# Altium schematic symbol library SchLibrary.SchLib: 178 symbols
Pins are listed as number, name and electrical type; pins without a type are passive.

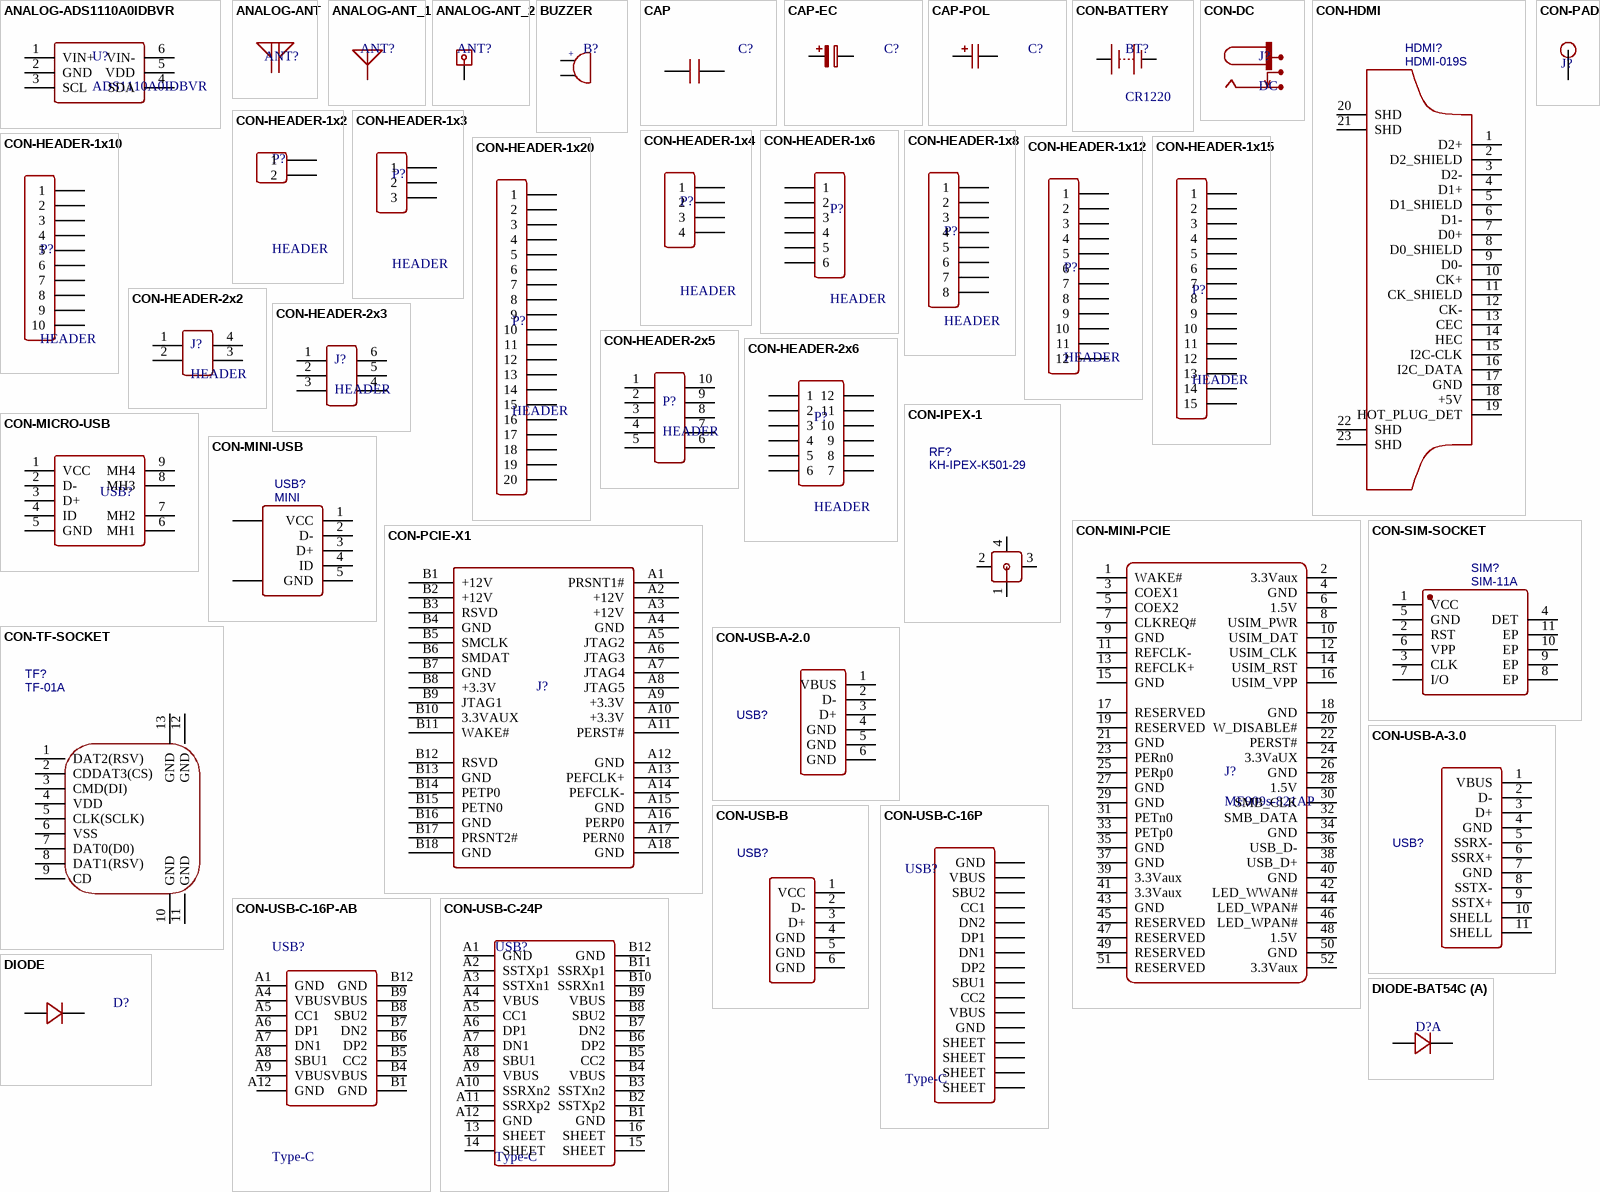
[diagram p0: symbols ANALOG-ADS1110A0IDBVR to DIODE-BAT54C]

## ANALOG-ADS1110A0IDBVR
designator U?, comment ADS1110A0IDBVR
footprint SOT-23-6
pins: 1 VIN+, 2 GND, 3 SCL, 4 SDA, 5 VDD, 6 VIN-

## ANALOG-ANT
designator ANT?
天线
pins: 1 ANT, 2 GND

## ANALOG-ANT_1
designator ANT?
天线
pins: 1

## ANALOG-ANT_2
designator ANT?
天线
pins: 1 S, 2 GND hidden to GND, 3 GND hidden to GND, 4 GND hidden to GND

## BUZZER
designator B?
蜂鸣器
pins: 1, 2
text: +

## CAP
designator C?
无极性电容; ComponentLink1Description: 供应商链接; ComponentLink1URL: http://www.szlcsc.com/product/details_1911.html
pins: 1, 2

## CAP-EC
designator C?
有极性电容; ComponentLink1Description: 供应商链接; ComponentLink1URL: http://www.szlcsc.com/product/details_7643.html
pins: 1, 2

## CAP-POL
designator C?
有极性电容; ComponentLink1Description: 供应商链接; ComponentLink1URL: http://www.szlcsc.com/product/details_7643.html
pins: 1, 2

## CON-BATTERY
designator BT?, comment CR1220
电池插座
pins: 1 +, 2 -

## CON-DC
designator J?, comment DC
DC5.5插座
pins: 1, 2, 3

## CON-HDMI
designator HDMI?, comment HDMI-019S
footprint CON-HDMI-019S (Connectors)
pins: 1 D2+, 2 D2_SHIELD, 3 D2-, 4 D1+, 5 D1_SHIELD, 6 D1-, 7 D0+, 8 D0_SHIELD, 9 D0-, 10 CK+, 11 CK_SHIELD, 12 CK-, 13 CEC, 14 HEC, 15 I2C-CLK, 16 I2C_DATA, 17 GND, 18 +5V, 19 HOT_PLUG_DET, 20 SHD, 21 SHD, 22 SHD, 23 SHD

## CON-HEADER-1x2
designator P?, comment HEADER
排线端子
signal-integrity model Connector
pins: 1, 2

## CON-HEADER-1x3
designator P?, comment HEADER
排线端子
signal-integrity model Connector
pins: 1, 2, 3

## CON-HEADER-1x4
designator P?, comment HEADER
排线端子
signal-integrity model Connector
pins: 1, 2, 3, 4

## CON-HEADER-1x6
designator P?, comment HEADER
排线端子
signal-integrity model Connector
pins: 1, 2, 3, 4, 5, 6

## CON-HEADER-1x8
designator P?, comment HEADER
排线端子
signal-integrity model Connector
pins: 1, 2, 3, 4, 5, 6, 7, 8

## CON-HEADER-1x10
designator P?, comment HEADER
排线端子
signal-integrity model Connector
pins: 1, 2, 3, 4, 5, 6, 7, 8, 9, 10

## CON-HEADER-1x12
designator P?, comment HEADER
排线端子
signal-integrity model Connector
pins: 1, 2, 3, 4, 5, 6, 7, 8, 9, 10, 11, 12

## CON-HEADER-1x15
designator P?, comment HEADER
排线端子
signal-integrity model Connector
pins: 1, 2, 3, 4, 5, 6, 7, 8, 9, 10, 11, 12, 13, 14, 15

## CON-HEADER-1x20
designator P?, comment HEADER
排线端子
signal-integrity model Connector
pins: 1, 2, 3, 4, 5, 6, 7, 8, 9, 10, 11, 12, 13, 14, 15, 16, 17, 18, 19, 20

## CON-HEADER-2x2
designator J?, comment HEADER
排线端子
pins: 1, 2, 3, 4

## CON-HEADER-2x3
designator J?, comment HEADER
排线端子
pins: 1, 2, 3, 4, 5, 6

## CON-HEADER-2x5
designator P?, comment HEADER
排线端子
pins: 1, 2, 3, 4, 5, 6, 7, 8, 9, 10

## CON-HEADER-2x6
designator P?, comment HEADER
排线端子
signal-integrity model Connector
pins: 1, 2, 3, 4, 5, 6, 7, 8, 9, 10, 11, 12

## CON-IPEX-1
designator RF?, comment KH-IPEX-K501-29
IPEX1
footprint CON-IPEX-ANT (Connectors)
pins: 1, 2, 3, 4

## CON-MICRO-USB
designator USB?
MicroUSB
pins: 1 VCC, 2 D-, 3 D+, 4 ID, 5 GND, 6 MH1, 7 MH2, 8 MH3, 9 MH4

## CON-MINI-PCIE
designator J?, comment ME909s-821AP
MiniPCIe
pins: 1 WAKE#, 2 3.3Vaux, 3 COEX1, 4 GND, 5 COEX2, 6 1.5V, 7 CLKREQ#, 8 USIM_PWR, 9 GND, 10 USIM_DAT, 11 REFCLK-, 12 USIM_CLK, 13 REFCLK+, 14 USIM_RST, 15 GND, 16 USIM_VPP, 17 RESERVED, 18 GND, 19 RESERVED, 20 W_DISABLE#, 21 GND, 22 PERST#, 23 PERn0, 24 3.3VaUX, 25 PERp0, 26 GND, 27 GND, 28 1.5V, 29 GND, 30 SMB_CLK, 31 PETn0, 32 SMB_DATA, 33 PETp0, 34 GND, 35 GND, 36 USB_D-, 37 GND, 38 USB_D+, 39 3.3Vaux, 40 GND, 41 3.3Vaux, 42 LED_WWAN#, 43 GND, 44 LED_WPAN#, 45 RESERVED, 46 LED_WPAN#, 47 RESERVED, 48 1.5V, 49 RESERVED, 50 GND, 51 RESERVED, 52 3.3Vaux

## CON-MINI-USB
designator USB?, comment MINI
MiniUSB
pins: 1 VCC, 2 D-, 3 D+, 4 ID, 5 GND, 6, 7

## CON-PAD
designator J?, comment PAD  (value not drawn)
pins: 1

## CON-PCIE-X1
designator J?
PCIE-X1
pins: A1 PRSNT1# (oc), A2 +12V (oc), A3 +12V (oc), A4 GND (oc), A5 JTAG2 (oc), A6 JTAG3 (oc), A7 JTAG4 (oc), A8 JTAG5 (oc), A9 +3.3V (oc), A10 +3.3V (oc), A11 PERST# (oc), A12 GND (oc), A13 PEFCLK+ (oc), A14 PEFCLK- (oc), A15 GND (oc), A16 PERP0 (oc), A17 PERN0 (oc), A18 GND (oc), B1 +12V (oc), B2 +12V (oc), B3 RSVD (oc), B4 GND (oc), B5 SMCLK (oc), B6 SMDAT (oc), B7 GND (oc), B8 +3.3V (oc), B9 JTAG1 (oc), B10 3.3VAUX (oc), B11 WAKE# (oc), B12 RSVD (oc), B13 GND (oc), B14 PETP0 (oc), B15 PETN0 (oc), B16 GND (oc), B17 PRSNT2# (oc), B18 GND (oc)

## CON-SIM-SOCKET
designator SIM?, comment SIM-11A
SIM
pins: 1 VCC, 2 RST, 3 CLK, 4 DET, 5 GND, 6 VPP, 7 I/O, 8 EP, 9 EP, 10 EP, 11 EP

## CON-TF-SOCKET
designator TF?, comment TF-01A
TF
pins: 1 DAT2(RSV), 2 CDDAT3(CS), 3 CMD(DI), 4 VDD, 5 CLK(SCLK), 6 VSS, 7 DAT0(D0), 8 DAT1(RSV), 9 CD, 10 GND, 11 GND, 12 GND, 13 GND

## CON-USB-A-2.0
designator USB?
USB
pins: 1 VBUS, 2 D-, 3 D+, 4 GND, 5 GND, 6 GND

## CON-USB-A-3.0
designator USB?
USB
pins: 1 VBUS, 2 D-, 3 D+, 4 GND, 5 SSRX-, 6 SSRX+, 7 GND, 8 SSTX-, 9 SSTX+, 10 SHELL, 11 SHELL

## CON-USB-B
designator USB?
USB
pins: 1 VCC, 2 D-, 3 D+, 4 GND, 5 GND, 6 GND

## CON-USB-C-16P
designator USB?, comment Type-C
USB
pins: 1 GND, 2 VBUS, 3 SBU2, 4 CC1, 5 DN2, 6 DP1, 7 DN1, 8 DP2, 9 SBU1, 10 CC2, 11 VBUS, 12 GND, 13 SHEET, 14 SHEET, 15 SHEET, 16 SHEET

## CON-USB-C-16P-AB
designator USB?, comment Type-C
USB
pins: A1 GND, A4 VBUS, A5 CC1, A6 DP1, A7 DN1, A8 SBU1, A9 VBUS, A12 GND, B1 GND, B4 VBUS, B5 CC2, B6 DP2, B7 DN2, B8 SBU2, B9 VBUS, B12 GND

## CON-USB-C-24P
designator USB?, comment Type-C
USB
pins: 13 SHEET, 14 SHEET, 15 SHEET, 16 SHEET, A1 GND, A2 SSTXp1, A3 SSTXn1, A4 VBUS, A5 CC1, A6 DP1, A7 DN1, A8 SBU1, A9 VBUS, A10 SSRXn2, A11 SSRXp2, A12 GND, B1 GND, B2 SSTXp2, B3 SSTXn2, B4 VBUS, B5 CC2, B6 DP2, B7 DN2, B8 SBU2, B9 VBUS, B10 SSRXn1, B11 SSRXp1, B12 GND

## DIODE
designator D?
普通二极管
pins: 1, 2

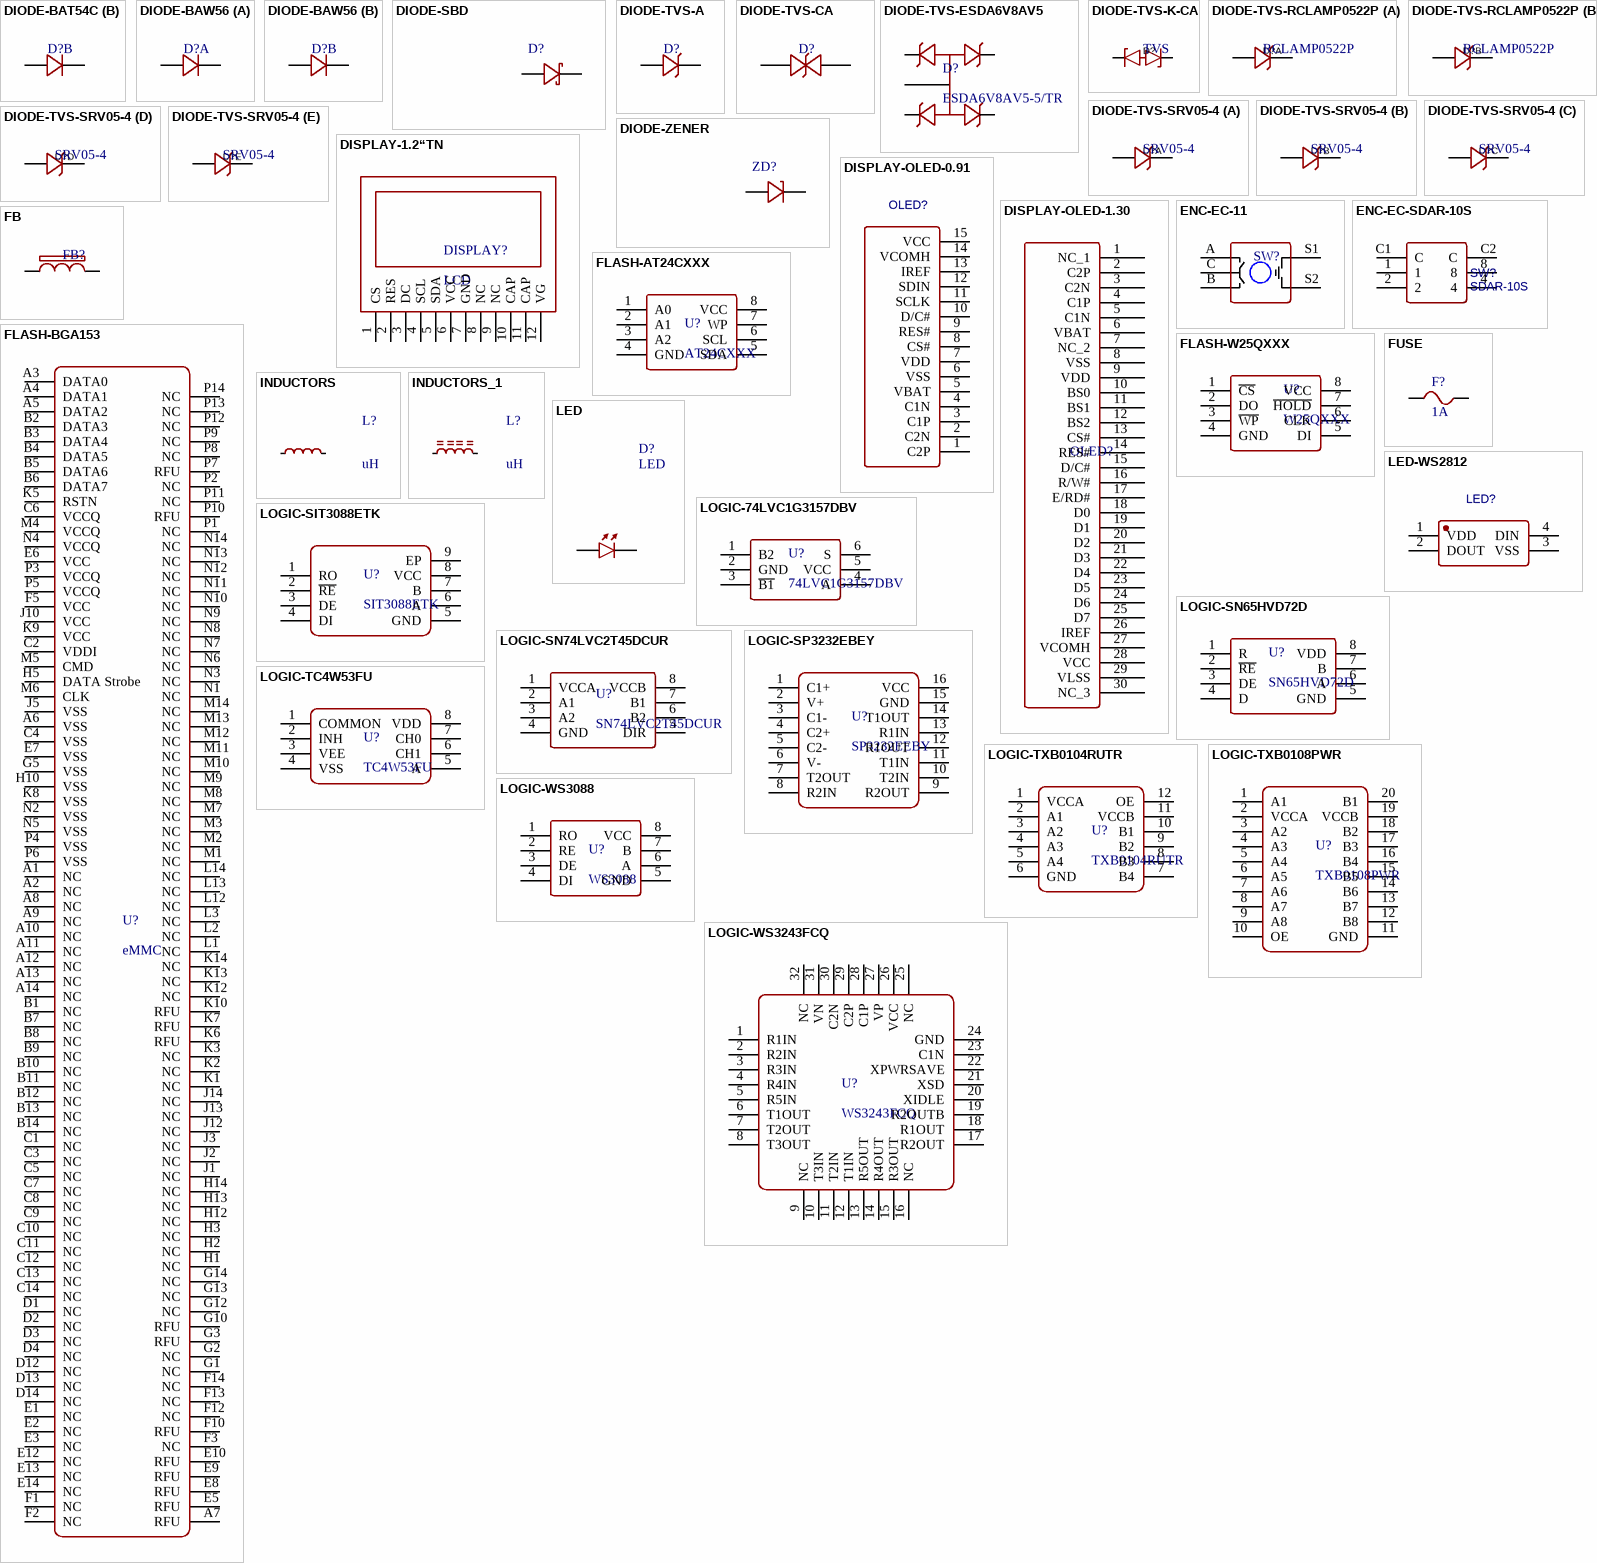
[diagram p1: symbols DIODE-BAT54C to LOGIC-WS3243FCQ]

## DIODE-BAT54C
designator D?  (value not drawn)
共阴极二级管
part A pins: 1, 3
part B pins: 2, 3

## DIODE-BAW56
designator D?  (value not drawn)
共阳极二极管
part A pins: 1, 3
part B pins: 2, 3

## DIODE-SBD
designator D?
肖特基二极管
pins: 1, 2

## DIODE-TVS-A
designator D?
TVS
pins: 1, 2

## DIODE-TVS-CA
designator D?
TVS
pins: 1, 2

## DIODE-TVS-ESDA6V8AV5
designator D?, comment ESDA6V8AV5-5/TR
TVS/ESD
footprint SOT-553-5
pins: 1, 2, 3, 4, 5

## DIODE-TVS-K-CA
designator D?, comment TVS
pins: 1, 2

## DIODE-TVS-RCLAMP0522P
designator D?, comment RCLAMP0522P
TVS
part A pins: 1, 3
part B pins: 2, 4

## DIODE-TVS-SRV05-4
designator D?, comment SRV05-4
TVS
part A pins: 1, 2
part B pins: 2, 3
part C pins: 2, 4
part D pins: 2, 6
part E pins: 2, 5

## DIODE-ZENER
designator ZD?
齐纳二极管
pins: 1, 2

## DISPLAY-1.2“TN
designator DISPLAY?, comment LCD
LCD显示屏
footprint CHIP-LCD-1.2 (1.2inch LCD)
pins: 1 CS, 2 RES, 3 DC, 4 SCL, 5 SDA, 6 VCC, 7 GND, 8 NC, 9 NC, 10 CAP, 11 CAP, 12 VG

## DISPLAY-OLED-0.91
designator OLED?
OLED显示屏
footprint CHIP-OLED-0.91 (Chip SSD1306 15P)
pins: 1 C2P, 2 C2N, 3 C1P, 4 C1N, 5 VBAT, 6 VSS, 7 VDD, 8 CS#, 9 RES#, 10 D/C#, 11 SCLK, 12 SDIN, 13 IREF, 14 VCOMH, 15 VCC

## DISPLAY-OLED-1.30
designator OLED?
OLED显示屏
footprint CHIP-OLED-1.30 (Chip SSD1306 15P)
pins: 1 NC_1, 2 C2P, 3 C2N, 4 C1P, 5 C1N, 6 VBAT, 7 NC_2, 8 VSS, 9 VDD, 10 BS0, 11 BS1, 12 BS2, 13 CS#, 14 RES#, 15 D/C#, 16 R/W#, 17 E/RD#, 18 D0, 19 D1, 20 D2, 21 D3, 22 D4, 23 D5, 24 D6, 25 D7, 26 IREF, 27 VCOMH, 28 VCC, 29 VLSS, 30 NC_3

## ENC-EC-11
designator SW?
旋转编码器
pins: A 1, B, C, S1 S2, S2 S3

## ENC-EC-SDAR-10S
designator SW?, comment SDAR-10S
旋转编码器; BOM_Manufacturer: SM Switch; Contributor: LCSC; BOM_Supplier: LCSC; BOM_Supplier Part: C2909119; BOM_Manufacturer Part: SDAR-10S; BOM_JLCPCB Part Class: Extended Part; spicePre: S; spiceSymbolName: SDAR-10S
pins: 1, 2, 4, 8, C1 C, C2 C

## FB
designator FB?
磁珠
pins: 1, 2

## FLASH-AT24CXXX
designator U?, comment AT24CXXX
EEPROM
footprint SOP/SOIC-8-150 (L5.0-W4.0-P1.27)
pins: 1 A0, 2 A1, 3 A2, 4 GND, 5 SDA, 6 SCL, 7 WP, 8 VCC

## FLASH-BGA153
designator U?, comment eMMC
footprint BGA153-EMMC (BGA, 196-Leads, Body 11.50x13.00mmx0.70mm, Pitch 0.50mm)
pins: A1 NC, A2 NC, A3 DATA0, A4 DATA1, A5 DATA2, A6 VSS, A7 RFU, A8 NC, A9 NC, A10 NC, A11 NC, A12 NC, A13 NC, A14 NC, B1 NC, B2 DATA3, B3 DATA4, B4 DATA5, B5 DATA6, B6 DATA7, B7 NC, B8 NC, B9 NC, B10 NC, B11 NC, B12 NC, B13 NC, B14 NC, C1 NC, C2 VDDI, C3 NC, C4 VSS, C5 NC, C6 VCCQ, C7 NC, C8 NC, C9 NC, C10 NC, C11 NC, C12 NC, C13 NC, C14 NC, D1 NC, D2 NC, D3 NC, D4 NC, D12 NC, D13 NC, D14 NC, E1 NC, E2 NC, E3 NC, E5 RFU, E6 VCC, E7 VSS, E8 RFU, E9 RFU, E10 RFU, E12 NC, E13 NC, E14 NC, F1 NC, F2 NC, F3 NC, F5 VCC, F10 RFU, F12 NC, F13 NC, F14 NC, G1 NC, G2 NC, G3 RFU, G5 VSS, G10 RFU, G12 NC, G13 NC, G14 NC, H1 NC, H2 NC, H3 NC, H5 DATA Strobe, H10 VSS, H12 NC, H13 NC, H14 NC, J1 NC, J2 NC, J3 NC, J5 VSS, J10 VCC, J12 NC, J13 NC, J14 NC, K1 NC, K2 NC, K3 NC, K5 RSTN, K6 RFU, K7 RFU, K8 VSS, K9 VCC, K10 RFU, K12 NC, K13 NC, K14 NC, L1 NC, L2 NC, L3 NC, L12 NC, L13 NC, L14 NC, M1 NC, M2 NC, M3 NC, M4 VCCQ, M5 CMD, M6 CLK, M7 NC, M8 NC, M9 NC, M10 NC, M11 NC, M12 NC, M13 NC, M14 NC, N1 NC, N2 VSS, N3 NC, N4 VCCQ, N5 VSS, N6 NC, N7 NC, N8 NC, N9 NC, N10 NC, N11 NC, N12 NC, N13 NC, N14 NC, P1 NC, P2 NC, P3 VCCQ, P4 VSS, P5 VCCQ, P6 VSS, P7 RFU, P8 NC, P9 NC, P10 RFU, P11 NC, P12 NC, P13 NC, P14 NC

## FLASH-W25QXXX
designator U?, comment W25QXXX
Flash
footprint SOP/SOIC-8-208 (L5.3-W5.3-P1.27)
pins: 1 ~{CS}, 2 DO, 3 ~{WP}, 4 GND, 5 DI, 6 CLK, 7 ~{HOLD}, 8 VCC

## FUSE
designator F?, comment 1A
自恢复保险丝
pins: 1, 2

## INDUCTORS
designator L?, comment uH
电感
pins: 1, 2

## INDUCTORS_1
designator L?, comment uH
电感
pins: 1, 2

## LED
designator D?
pins: 1, 2

## LED-WS2812
designator LED?
WS2812
pins: 1 VDD, 2 DOUT, 3 VSS, 4 DIN

## LOGIC-74LVC1G3157DBV
designator U?, comment 74LVC1G3157DBV
模拟开关
footprint SOT-23-6
pins: 1 B2, 2 GND, 3 ~{B1}, 4 A, 5 VCC, 6 S

## LOGIC-SIT3088ETK
designator U?, comment SIT3088ETK
RS485
footprint DFN-8-L3.0-W3.0-P0.65-EP (SIT3088ETK)
pins: 1 RO, 2 ~{RE}, 3 DE, 4 DI, 5 GND, 6 A, 7 B, 8 VCC, 9 EP

## LOGIC-SN65HVD72D
designator U?, comment SN65HVD72D
RS485
footprint SOP/SOIC-8-150 (L5.0-W4.0-P1.27)
pins: 1 R, 2 ~{RE}, 3 DE, 4 D, 5 GND, 6 A, 7 B, 8 VDD

## LOGIC-SN74LVC2T45DCUR
designator U?, comment SN74LVC2T45DCUR
电平转换器
pins: 1 VCCA, 2 A1, 3 A2, 4 GND, 5 DIR, 6 B2, 7 B1, 8 VCCB

## LOGIC-SP3232EBEY
designator U?, comment SP3232EEBY
RS232芯片
footprint TSSOP-16 (L5.0-W4.4-P0.65)
pins: 1 C1+, 2 V+, 3 C1-, 4 C2+, 5 C2-, 6 V-, 7 T2OUT, 8 R2IN, 9 R2OUT, 10 T2IN, 11 T1IN, 12 R1OUT, 13 R1IN, 14 T1OUT, 15 GND, 16 VCC

## LOGIC-TC4W53FU
designator U?, comment TC4W53FU
模拟开关
pins: 1 COMMON, 2 INH, 3 VEE, 4 VSS, 5 A, 6 CH1, 7 CH0, 8 VDD

## LOGIC-TXB0104RUTR
designator U?, comment TXB0104RUTR
电平转换器
footprint QFN-12_L2.0-W1.7-P0.40 (L2.0-W1.7-P0.40-TXB0104RUTR)
pins: 1 VCCA, 2 A1, 3 A2, 4 A3, 5 A4, 6 GND, 7 B4, 8 B3, 9 B2, 10 B1, 11 VCCB, 12 OE

## LOGIC-TXB0108PWR
designator U?, comment TXB0108PWR
电平转换器
footprint TSSOP-20-L6.5-W4.4-P0.65 (L6.5-W4.4-P0.65)
pins: 1 A1, 2 VCCA, 3 A2, 4 A3, 5 A4, 6 A5, 7 A6, 8 A7, 9 A8, 10 OE, 11 GND, 12 B8, 13 B7, 14 B6, 15 B5, 16 B4, 17 B3, 18 B2, 19 VCCB, 20 B1

## LOGIC-WS3088
designator U?, comment WS3088
RS485芯片
footprint SOP/SOIC-8-150 (L5.0-W4.0-P1.27)
pins: 1 RO, 2 RE, 3 DE, 4 DI, 5 GND, 6 A, 7 B, 8 VCC

## LOGIC-WS3243FCQ
designator U?, comment WS3243FCQ
RS232芯片
footprint QFN-32-L5.0-W5.0-P0.50 (L5.0-W5.0-P0.5——ESP8266EX)
pins: 1 R1IN, 2 R2IN, 3 R3IN, 4 R4IN, 5 R5IN, 6 T1OUT, 7 T2OUT, 8 T3OUT, 9 NC, 10 T3IN, 11 T2IN, 12 T1IN, 13 R5OUT, 14 R4OUT, 15 R3OUT, 16 NC, 17 R2OUT, 18 R1OUT, 19 R2OUTB, 20 XIDLE, 21 XSD, 22 XPWRSAVE, 23 C1N, 24 GND, 25 NC, 26 VCC, 27 VP, 28 C1P, 29 C2P, 30 C2N, 31 VN, 32 NC

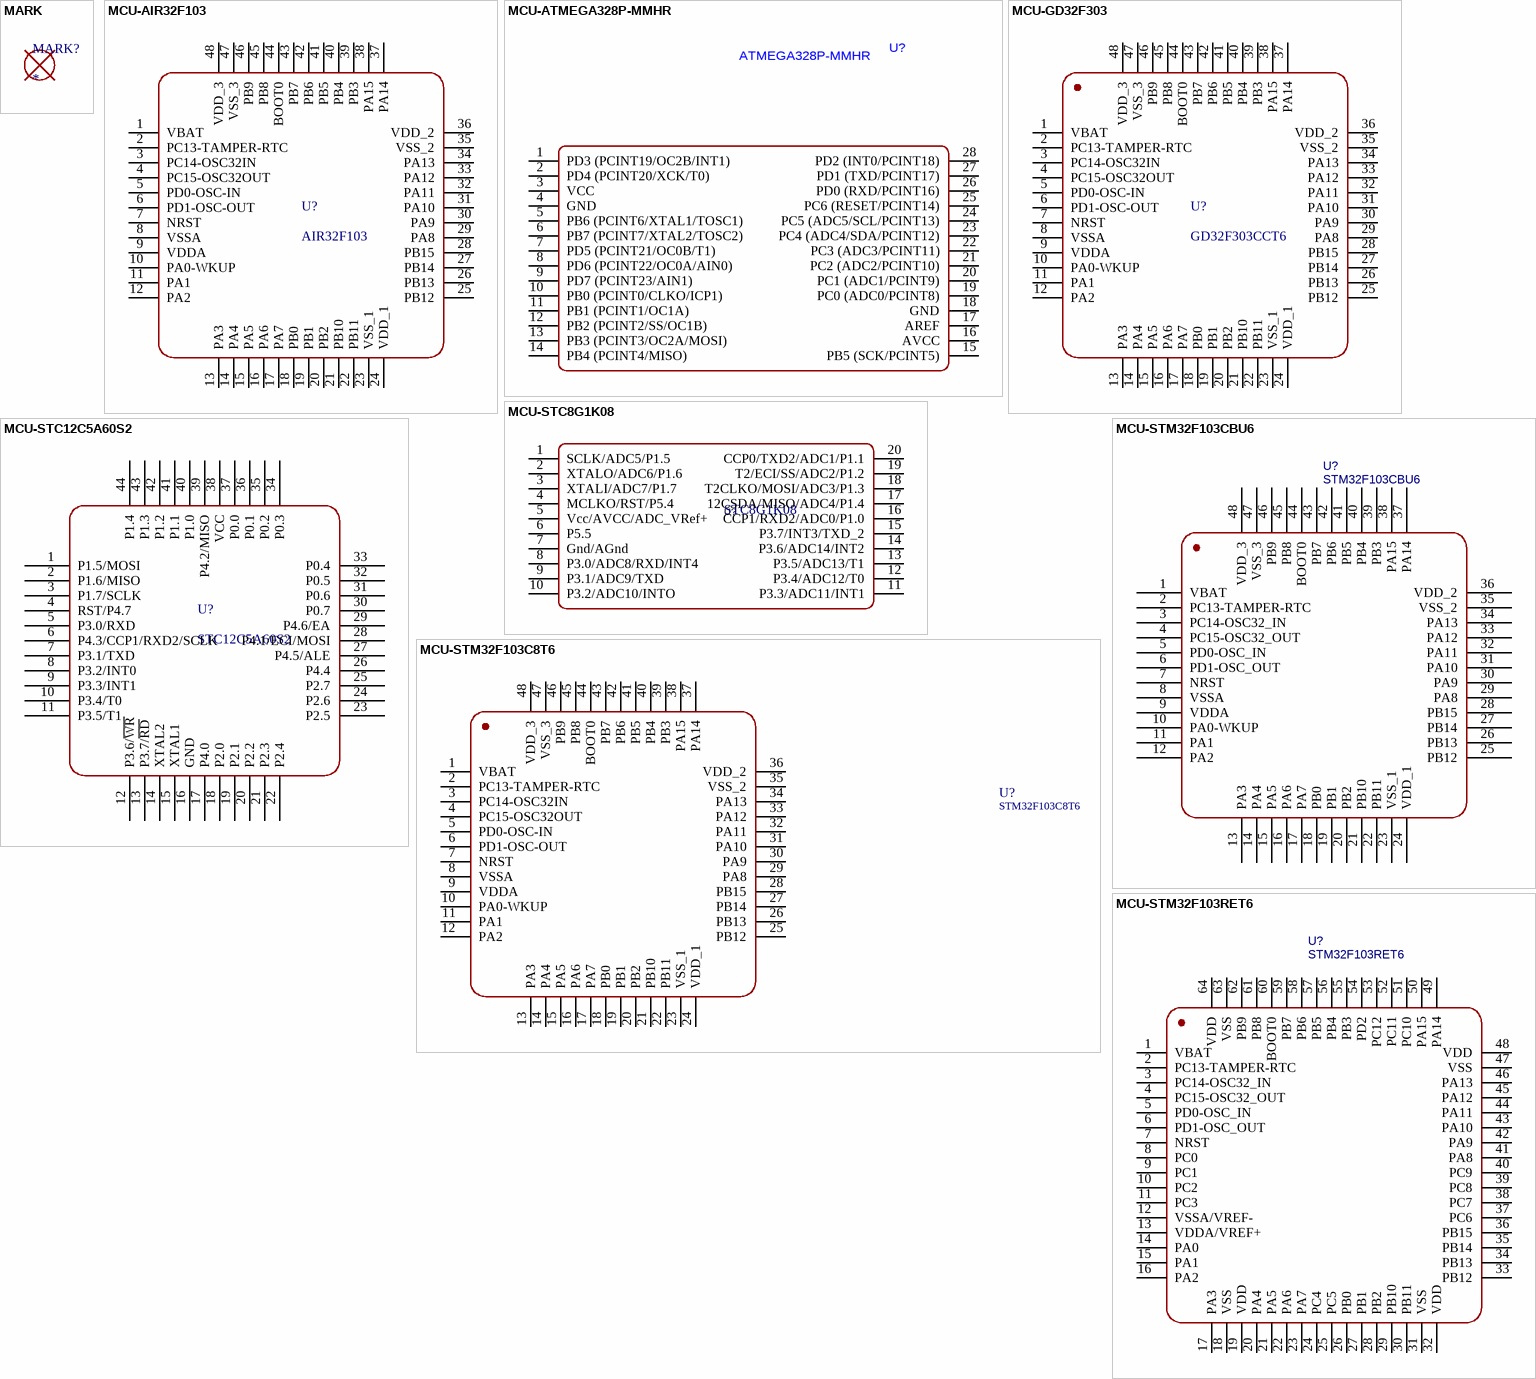
[diagram p2: symbols MARK to MCU-STM32F103RET6]

## MARK
designator MARK?
MARK点
footprint MARK

## MCU-AIR32F103
designator U?, comment AIR32F103
合宙MCU
footprint LQFP-480-L7.0-W7.0-P0.50 (Default STM32F10x,0.5mm)
pins: 1 VBAT, 2 PC13-TAMPER-RTC, 3 PC14-OSC32IN, 4 PC15-OSC32OUT, 5 PD0-OSC-IN, 6 PD1-OSC-OUT, 7 NRST, 8 VSSA, 9 VDDA, 10 PA0-WKUP, 11 PA1, 12 PA2, 13 PA3, 14 PA4, 15 PA5, 16 PA6, 17 PA7, 18 PB0, 19 PB1, 20 PB2, 21 PB10, 22 PB11, 23 VSS_1, 24 VDD_1, 25 PB12, 26 PB13, 27 PB14, 28 PB15, 29 PA8, 30 PA9, 31 PA10, 32 PA11, 33 PA12, 34 PA13, 35 VSS_2, 36 VDD_2, 37 PA14, 38 PA15, 39 PB3, 40 PB4, 41 PB5, 42 PB6, 43 PB7, 44 BOOT0, 45 PB8, 46 PB9, 47 VSS_3, 48 VDD_3

## MCU-ATMEGA328P-MMHR
designator U?, comment ATMEGA328P-MMHR
ARDUINO
footprint QFN-28-L4.0-W4.0-P0.45 (L4.0-W4.0-P0.45——ATmega328P_MMHR)
pins: 1 PD3 (PCINT19/OC2B/INT1), 2 PD4 (PCINT20/XCK/T0), 3 VCC, 4 GND, 5 PB6 (PCINT6/XTAL1/TOSC1), 6 PB7 (PCINT7/XTAL2/TOSC2), 7 PD5 (PCINT21/OC0B/T1), 8 PD6 (PCINT22/OC0A/AIN0), 9 PD7 (PCINT23/AIN1), 10 PB0 (PCINT0/CLKO/ICP1), 11 PB1 (PCINT1/OC1A), 12 PB2 (PCINT2/SS/OC1B), 13 PB3 (PCINT3/OC2A/MOSI), 14 PB4 (PCINT4/MISO), 15 PB5 (SCK/PCINT5), 16 AVCC, 17 AREF, 18 GND, 19 PC0 (ADC0/PCINT8), 20 PC1 (ADC1/PCINT9), 21 PC2 (ADC2/PCINT10), 22 PC3 (ADC3/PCINT11), 23 PC4 (ADC4/SDA/PCINT12), 24 PC5 (ADC5/SCL/PCINT13), 25 PC6 (RESET/PCINT14), 26 PD0 (RXD/PCINT16), 27 PD1 (TXD/PCINT17), 28 PD2 (INT0/PCINT18)

## MCU-GD32F303
designator U?, comment GD32F303CCT6
兆易创新MCU
footprint LQFP-480-L7.0-W7.0-P0.50 (Default STM32F10x,0.5mm)
pins: 1 VBAT, 2 PC13-TAMPER-RTC, 3 PC14-OSC32IN, 4 PC15-OSC32OUT, 5 PD0-OSC-IN, 6 PD1-OSC-OUT, 7 NRST, 8 VSSA, 9 VDDA, 10 PA0-WKUP, 11 PA1, 12 PA2, 13 PA3, 14 PA4, 15 PA5, 16 PA6, 17 PA7, 18 PB0, 19 PB1, 20 PB2, 21 PB10, 22 PB11, 23 VSS_1, 24 VDD_1, 25 PB12, 26 PB13, 27 PB14, 28 PB15, 29 PA8, 30 PA9, 31 PA10, 32 PA11, 33 PA12, 34 PA13, 35 VSS_2, 36 VDD_2, 37 PA14, 38 PA15, 39 PB3, 40 PB4, 41 PB5, 42 PB6, 43 PB7, 44 BOOT0, 45 PB8, 46 PB9, 47 VSS_3, 48 VDD_3

## MCU-STC8G1K08
designator U?, comment STC8G1K08
STC处理器
footprint QFN-20-L3.0-W3.0-P0.4 (L3.0-W3.0-P0.4——STC8G1K08)
footprint QFN-20-L3.0-W3.0-P0.40 (L3.0-W3.0-P0.4——STC8G1K08)
pins: 1 SCLK/ADC5/P1.5, 2 XTALO/ADC6/P1.6, 3 XTALI/ADC7/P1.7, 4 MCLKO/RST/P5.4, 5 Vcc/AVCC/ADC_VRef+, 6 P5.5, 7 Gnd/AGnd, 8 P3.0/ADC8/RXD/INT4, 9 P3.1/ADC9/TXD, 10 P3.2/ADC10/INTO, 11 P3.3/ADC11/INT1, 12 P3.4/ADC12/T0, 13 P3.5/ADC13/T1, 14 P3.6/ADC14/INT2, 15 P3.7/INT3/TXD_2, 16 CCP1/RXD2/ADC0/P1.0, 17 12CSDA/MISO/ADC4/P1.4, 18 T2CLKO/MOSI/ADC3/P1.3, 19 T2/ECI/SS/ADC2/P1.2, 20 CCP0/TXD2/ADC1/P1.1

## MCU-STC12C5A60S2
designator U?, comment STC12C5A60S2
STC处理器
footprint Model Name (Footprint not found)
footprint LQFP-44-L10.0-W10.0-P0.80 (STC12 10x10mm,0.8mm)
pins: 1 P1.5/MOSI, 2 P1.6/MISO, 3 P1.7/SCLK, 4 RST/P4.7, 5 P3.0/RXD, 6 P4.3/CCP1/RXD2/SCLK, 7 P3.1/TXD, 8 P3.2/INT0, 9 P3.3/INT1, 10 P3.4/T0, 11 P3.5/T1, 12 P3.6/~{WR}, 13 P3.7/~{RD}, 14 XTAL2, 15 XTAL1, 16 GND, 17 P4.0, 18 P2.0, 19 P2.1, 20 P2.2, 21 P2.3, 22 P2.4, 23 P2.5, 24 P2.6, 25 P2.7, 26 P4.4, 27 P4.5/ALE, 28 P4.1/ECI/MOSI, 29 P4.6/EA, 30 P0.7, 31 P0.6, 32 P0.5, 33 P0.4, 34 P0.3, 35 P0.2, 36 P0.1, 37 P0.0, 38 VCC, 39 P4.2/MISO, 40 P1.0, 41 P1.1, 42 P1.2, 43 P1.3, 44 P1.4

## MCU-STM32F103C8T6
designator U?, comment STM32F103C8T6
意法半导体
footprint LQFP-480-L7.0-W7.0-P0.50 (Default STM32F10x,0.5mm)
pins: 1 VBAT, 2 PC13-TAMPER-RTC, 3 PC14-OSC32IN, 4 PC15-OSC32OUT, 5 PD0-OSC-IN, 6 PD1-OSC-OUT, 7 NRST, 8 VSSA, 9 VDDA, 10 PA0-WKUP, 11 PA1, 12 PA2, 13 PA3, 14 PA4, 15 PA5, 16 PA6, 17 PA7, 18 PB0, 19 PB1, 20 PB2, 21 PB10, 22 PB11, 23 VSS_1, 24 VDD_1, 25 PB12, 26 PB13, 27 PB14, 28 PB15, 29 PA8, 30 PA9, 31 PA10, 32 PA11, 33 PA12, 34 PA13, 35 VSS_2, 36 VDD_2, 37 PA14, 38 PA15, 39 PB3, 40 PB4, 41 PB5, 42 PB6, 43 PB7, 44 BOOT0, 45 PB8, 46 PB9, 47 VSS_3, 48 VDD_3

## MCU-STM32F103CBU6
designator U?, comment STM32F103CBU6
意法半导体
footprint QFN-48-L7.0-W7.0-P0.50 (L7.0-W7.0-P0.5——STM32xxxxCxUx)
pins: 1 VBAT, 2 PC13-TAMPER-RTC, 3 PC14-OSC32_IN, 4 PC15-OSC32_OUT, 5 PD0-OSC_IN, 6 PD1-OSC_OUT, 7 NRST, 8 VSSA, 9 VDDA, 10 PA0-WKUP, 11 PA1, 12 PA2, 13 PA3, 14 PA4, 15 PA5, 16 PA6, 17 PA7, 18 PB0, 19 PB1, 20 PB2, 21 PB10, 22 PB11, 23 VSS_1, 24 VDD_1, 25 PB12, 26 PB13, 27 PB14, 28 PB15, 29 PA8, 30 PA9, 31 PA10, 32 PA11, 33 PA12, 34 PA13, 35 VSS_2, 36 VDD_2, 37 PA14, 38 PA15, 39 PB3, 40 PB4, 41 PB5, 42 PB6, 43 PB7, 44 BOOT0, 45 PB8, 46 PB9, 47 VSS_3, 48 VDD_3

## MCU-STM32F103RET6
designator U?, comment STM32F103RET6
意法半导体
footprint LQFP-64-L10.0-W10.0-P0.50 (L10.0-W10.0-P0.50)
pins: 1 VBAT, 2 PC13-TAMPER-RTC, 3 PC14-OSC32_IN, 4 PC15-OSC32_OUT, 5 PD0-OSC_IN, 6 PD1-OSC_OUT, 7 NRST, 8 PC0, 9 PC1, 10 PC2, 11 PC3, 12 VSSA/VREF-, 13 VDDA/VREF+, 14 PA0, 15 PA1, 16 PA2, 17 PA3, 18 VSS, 19 VDD, 20 PA4, 21 PA5, 22 PA6, 23 PA7, 24 PC4, 25 PC5, 26 PB0, 27 PB1, 28 PB2, 29 PB10, 30 PB11, 31 VSS, 32 VDD, 33 PB12, 34 PB13, 35 PB14, 36 PB15, 37 PC6, 38 PC7, 39 PC8, 40 PC9, 41 PA8, 42 PA9, 43 PA10, 44 PA11, 45 PA12, 46 PA13, 47 VSS, 48 VDD, 49 PA14, 50 PA15, 51 PC10, 52 PC11, 53 PC12, 54 PD2, 55 PB3, 56 PB4, 57 PB5, 58 PB6, 59 PB7, 60 BOOT0, 61 PB8, 62 PB9, 63 VSS, 64 VDD

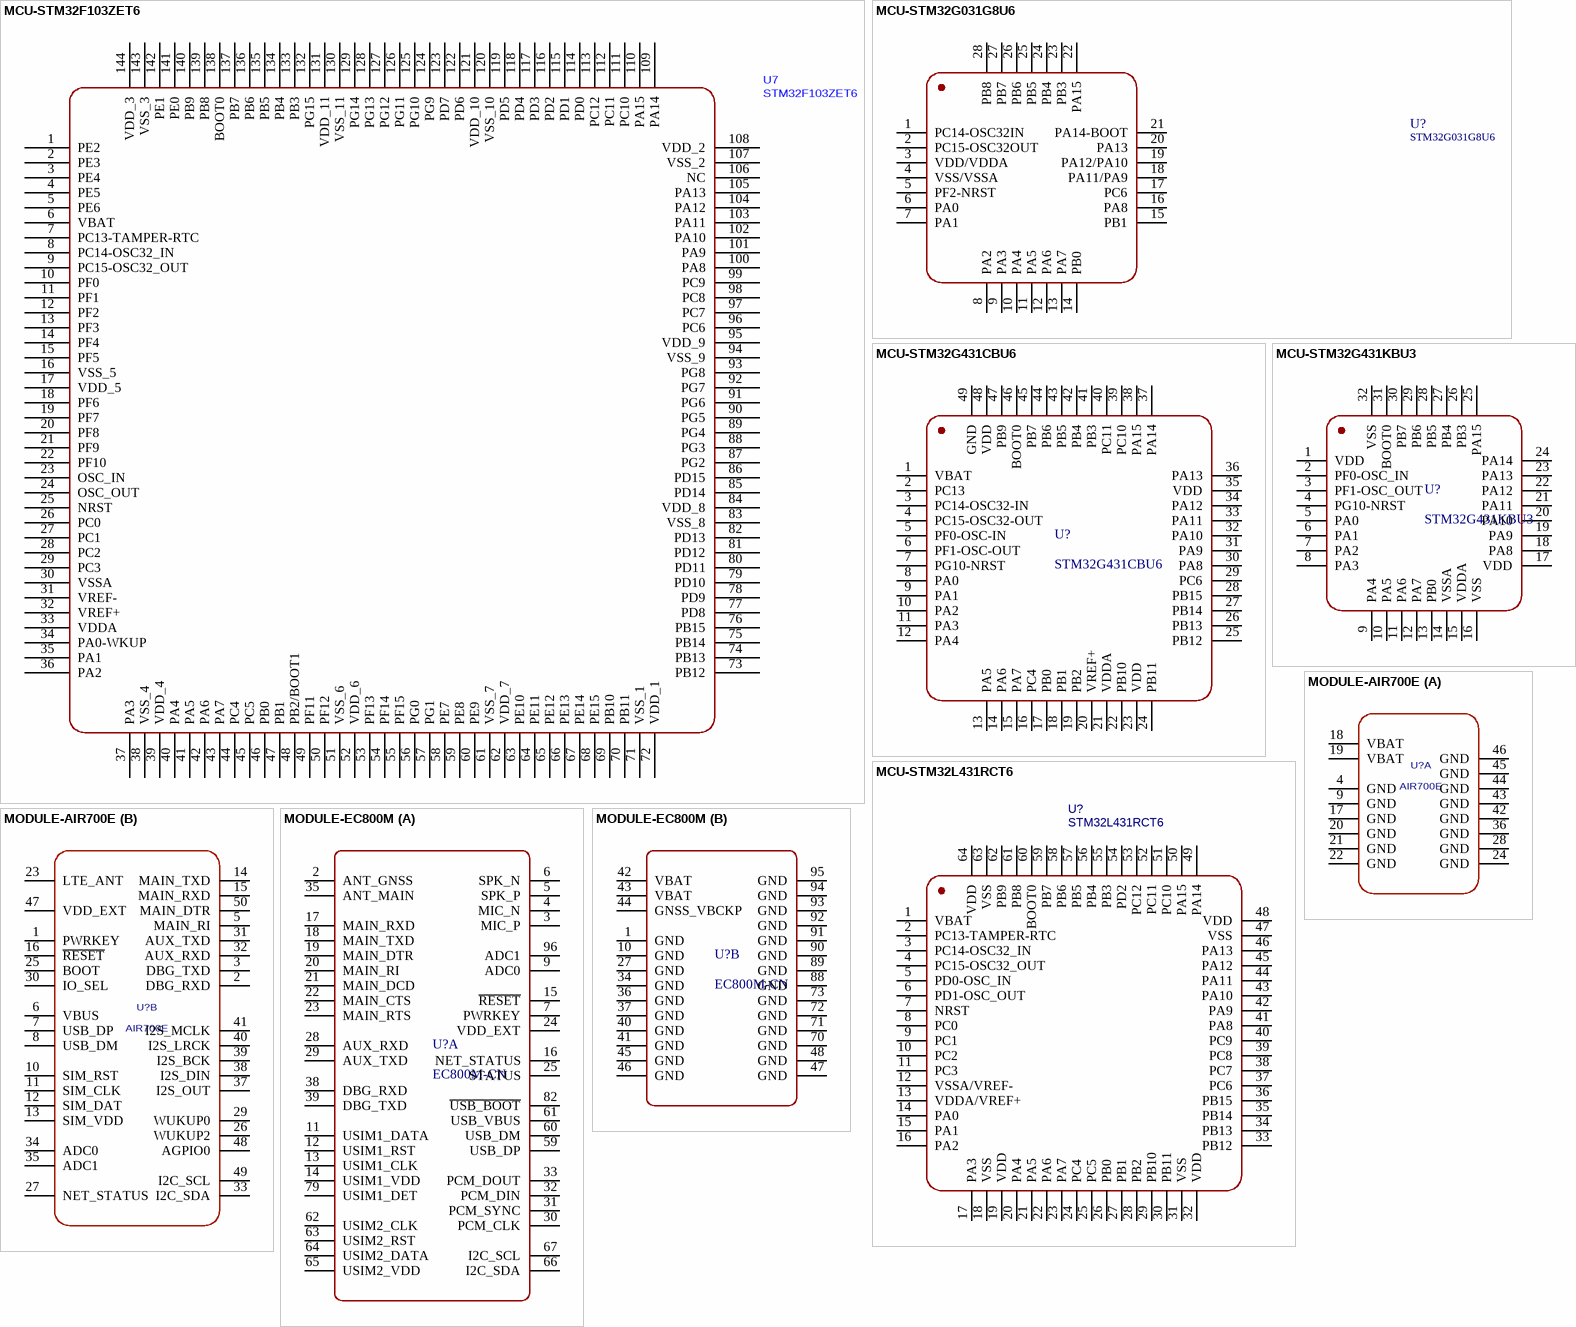
[diagram p3: symbols MCU-STM32F103ZET6 to MODULE-EC800M]

## MCU-STM32F103ZET6
designator U7, comment STM32F103ZET6
意法半导体
footprint LQFP-144-L20.0-W20.0-P0.50 (STM32F10xZE,0.5mm)
pins: 1 PE2, 2 PE3, 3 PE4, 4 PE5, 5 PE6, 6 VBAT, 7 PC13-TAMPER-RTC, 8 PC14-OSC32_IN, 9 PC15-OSC32_OUT, 10 PF0, 11 PF1, 12 PF2, 13 PF3, 14 PF4, 15 PF5, 16 VSS_5, 17 VDD_5, 18 PF6, 19 PF7, 20 PF8, 21 PF9, 22 PF10, 23 OSC_IN, 24 OSC_OUT, 25 NRST, 26 PC0, 27 PC1, 28 PC2, 29 PC3, 30 VSSA, 31 VREF-, 32 VREF+, 33 VDDA, 34 PA0-WKUP, 35 PA1, 36 PA2, 37 PA3, 38 VSS_4, 39 VDD_4, 40 PA4, 41 PA5, 42 PA6, 43 PA7, 44 PC4, 45 PC5, 46 PB0, 47 PB1, 48 PB2/BOOT1, 49 PF11, 50 PF12, 51 VSS_6, 52 VDD_6, 53 PF13, 54 PF14, 55 PF15, 56 PG0, 57 PG1, 58 PE7, 59 PE8, 60 PE9, 61 VSS_7, 62 VDD_7, 63 PE10, 64 PE11, 65 PE12, 66 PE13, 67 PE14, 68 PE15, 69 PB10, 70 PB11, 71 VSS_1, 72 VDD_1, 73 PB12, 74 PB13, 75 PB14, 76 PB15, 77 PD8, 78 PD9, 79 PD10, 80 PD11, 81 PD12, 82 PD13, 83 VSS_8, 84 VDD_8, 85 PD14, 86 PD15, 87 PG2, 88 PG3, 89 PG4, 90 PG5, 91 PG6, 92 PG7, 93 PG8, 94 VSS_9, 95 VDD_9, 96 PC6, 97 PC7, 98 PC8, 99 PC9, 100 PA8, 101 PA9, 102 PA10, 103 PA11, 104 PA12, 105 PA13, 106 NC, 107 VSS_2, 108 VDD_2, 109 PA14, 110 PA15, 111 PC10, 112 PC11, 113 PC12, 114 PD0, 115 PD1, 116 PD2, 117 PD3, 118 PD4, 119 PD5, 120 VSS_10, 121 VDD_10, 122 PD6, 123 PD7, 124 PG9, 125 PG10, 126 PG11, 127 PG12, 128 PG13, 129 PG14, 130 VSS_11, 131 VDD_11, 132 PG15, 133 PB3, 134 PB4, 135 PB5, 136 PB6, 137 PB7, 138 BOOT0, 139 PB8, 140 PB9, 141 PE0, 142 PE1, 143 VSS_3, 144 VDD_3

## MCU-STM32G031G8U6
designator U?, comment STM32G031G8U6
意法半导体
footprint QFN-28-L4.0-W4.0-P0.50 (STM32G031-L4.0-W4.0-P0.50)
pins: 1 PC14-OSC32IN, 2 PC15-OSC32OUT, 3 VDD/VDDA, 4 VSS/VSSA, 5 PF2-NRST, 6 PA0, 7 PA1, 8 PA2, 9 PA3, 10 PA4, 11 PA5, 12 PA6, 13 PA7, 14 PB0, 15 PB1, 16 PA8, 17 PC6, 18 PA11/PA9, 19 PA12/PA10, 20 PA13, 21 PA14-BOOT, 22 PA15, 23 PB3, 24 PB4, 25 PB5, 26 PB6, 27 PB7, 28 PB8

## MCU-STM32G431CBU6
designator U?, comment STM32G431CBU6
意法半导体
footprint QFN-48-L7.0-W7.0-P0.50 (L7.0-W7.0-P0.5——STM32xxxxCxUx)
pins: 1 VBAT, 2 PC13, 3 PC14-OSC32-IN, 4 PC15-OSC32-OUT, 5 PF0-OSC-IN, 6 PF1-OSC-OUT, 7 PG10-NRST, 8 PA0, 9 PA1, 10 PA2, 11 PA3, 12 PA4, 13 PA5, 14 PA6, 15 PA7, 16 PC4, 17 PB0, 18 PB1, 19 PB2, 20 VREF+, 21 VDDA, 22 PB10, 23 VDD, 24 PB11, 25 PB12, 26 PB13, 27 PB14, 28 PB15, 29 PC6, 30 PA8, 31 PA9, 32 PA10, 33 PA11, 34 PA12, 35 VDD, 36 PA13, 37 PA14, 38 PA15, 39 PC10, 40 PC11, 41 PB3, 42 PB4, 43 PB5, 44 PB6, 45 PB7, 46 BOOT0, 47 PB9, 48 VDD, 49 GND

## MCU-STM32G431KBU3
designator U?, comment STM32G431KBU3
意法半导体
footprint QFN-32-L5.0-W5.0-P0.50 (L5.0-W5.0-P0.5——ESP8266EX)
pins: 1 VDD, 2 PF0-OSC_IN, 3 PF1-OSC_OUT, 4 PG10-NRST, 5 PA0, 6 PA1, 7 PA2, 8 PA3, 9 PA4, 10 PA5, 11 PA6, 12 PA7, 13 PB0, 14 VSSA, 15 VDDA, 16 VSS, 17 VDD, 18 PA8, 19 PA9, 20 PA10, 21 PA11, 22 PA12, 23 PA13, 24 PA14, 25 PA15, 26 PB3, 27 PB4, 28 PB5, 29 PB6, 30 PB7, 31 BOOT0, 32 VSS

## MCU-STM32L431RCT6
designator U?, comment STM32L431RCT6
意法半导体
footprint LQFP-64-L10.0-W10.0-P0.50 (L10.0-W10.0-P0.50)
pins: 1 VBAT, 2 PC13-TAMPER-RTC, 3 PC14-OSC32_IN, 4 PC15-OSC32_OUT, 5 PD0-OSC_IN, 6 PD1-OSC_OUT, 7 NRST, 8 PC0, 9 PC1, 10 PC2, 11 PC3, 12 VSSA/VREF-, 13 VDDA/VREF+, 14 PA0, 15 PA1, 16 PA2, 17 PA3, 18 VSS, 19 VDD, 20 PA4, 21 PA5, 22 PA6, 23 PA7, 24 PC4, 25 PC5, 26 PB0, 27 PB1, 28 PB2, 29 PB10, 30 PB11, 31 VSS, 32 VDD, 33 PB12, 34 PB13, 35 PB14, 36 PB15, 37 PC6, 38 PC7, 39 PC8, 40 PC9, 41 PA8, 42 PA9, 43 PA10, 44 PA11, 45 PA12, 46 PA13, 47 VSS, 48 VDD, 49 PA14, 50 PA15, 51 PC10, 52 PC11, 53 PC12, 54 PD2, 55 PB3, 56 PB4, 57 PB5, 58 PB6, 59 PB7, 60 BOOT0, 61 PB8, 62 PB9, 63 VSS, 64 VDD

## MODULE-AIR700E
designator U?, comment AIR700E
合宙Air700E; Part Description: EC800N-CN Moudle 94PIN 15.8X17.7mm H2.4mm RO; Manufacturer: Quectel; Value: EC800N; Geometry.Height: 2.4mm; PCB DECAL: AIR700F
footprint MOD-AIR700E
part A pins: 4 GND, 9 GND, 17 GND, 18 VBAT, 19 VBAT, 20 GND, 21 GND, 22 GND, 24 GND, 28 GND, 36 GND, 42 GND, 43 GND, 44 GND, 45 GND, 46 GND
part B pins: 1 PWRKEY, 2 DBG_RXD, 3 DBG_TXD, 5 MAIN_RI, 6 VBUS, 7 USB_DP, 8 USB_DM, 10 SIM_RST, 11 SIM_CLK, 12 SIM_DAT, 13 SIM_VDD, 14 MAIN_TXD, 15 MAIN_RXD, 16 ~{RESET}, 23 LTE_ANT, 25 BOOT, 26 WUKUP2, 27 NET_STATUS, 29 WUKUP0, 30 IO_SEL, 31 AUX_TXD, 32 AUX_RXD, 33 I2C_SDA, 34 ADC0, 35 ADC1, 37 I2S_OUT, 38 I2S_DIN, 39 I2S_BCK, 40 I2S_LRCK, 41 I2S_MCLK, 47 VDD_EXT, 48 AGPIO0, 49 I2C_SCL, 50 MAIN_DTR

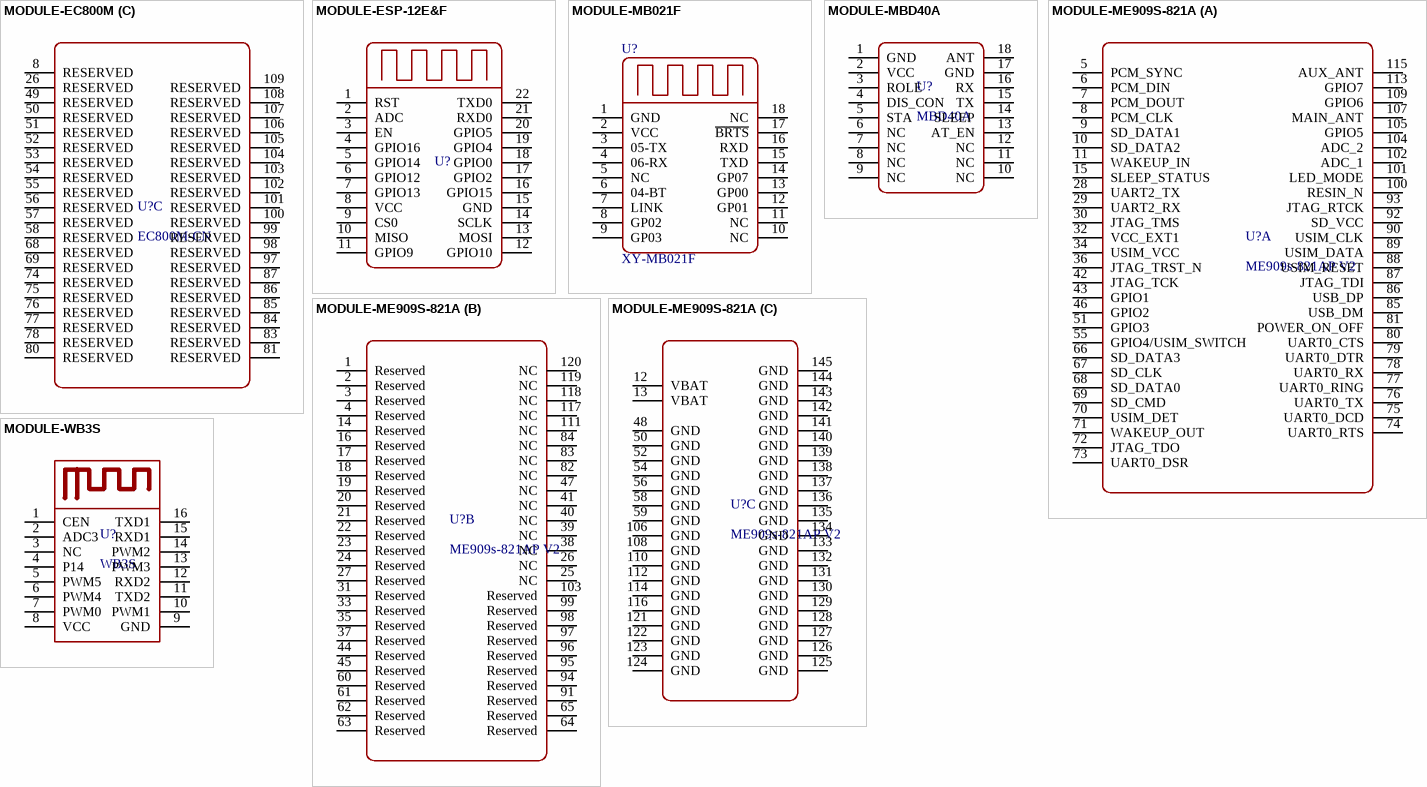
[diagram p4: symbols MODULE-EC800M to MODULE-WB3S]

## MODULE-EC800M
designator U?, comment EC800M-CN
移远通信模块
footprint MOD-EC800M-CN
part A pins: 2 ANT_GNSS, 3 MIC_P, 4 MIC_N, 5 SPK_P, 6 SPK_N, 7 PWRKEY, 9 ADC0, 11 USIM1_DATA, 12 USIM1_RST, 13 USIM1_CLK, 14 USIM1_VDD, 15 ~{RESET}, 16 NET_STATUS, 17 MAIN_RXD, 18 MAIN_TXD, 19 MAIN_DTR, 20 MAIN_RI, 21 MAIN_DCD, 22 MAIN_CTS, 23 MAIN_RTS, 24 VDD_EXT, 25 STATUS, 28 AUX_RXD, 29 AUX_TXD, 30 PCM_CLK, 31 PCM_SYNC, 32 PCM_DIN, 33 PCM_DOUT, 35 ANT_MAIN, 38 DBG_RXD, 39 DBG_TXD, 59 USB_DP, 60 USB_DM, 61 USB_VBUS, 62 USIM2_CLK, 63 USIM2_RST, 64 USIM2_DATA, 65 USIM2_VDD, 66 I2C_SDA, 67 I2C_SCL, 79 USIM1_DET, 82 ~{USB_BOOT}, 96 ADC1
part B pins: 1 GND, 10 GND, 27 GND, 34 GND, 36 GND, 37 GND, 40 GND, 41 GND, 42 VBAT, 43 VBAT, 44 GNSS_VBCKP, 45 GND, 46 GND, 47 GND, 48 GND, 70 GND, 71 GND, 72 GND, 73 GND, 88 GND, 89 GND, 90 GND, 91 GND, 92 GND, 93 GND, 94 GND, 95 GND
part C pins: 8 RESERVED, 26 RESERVED, 49 RESERVED, 50 RESERVED, 51 RESERVED, 52 RESERVED, 53 RESERVED, 54 RESERVED, 55 RESERVED, 56 RESERVED, 57 RESERVED, 58 RESERVED, 68 RESERVED, 69 RESERVED, 74 RESERVED, 75 RESERVED, 76 RESERVED, 77 RESERVED, 78 RESERVED, 80 RESERVED, 81 RESERVED, 83 RESERVED, 84 RESERVED, 85 RESERVED, 86 RESERVED, 87 RESERVED, 97 RESERVED, 98 RESERVED, 99 RESERVED, 100 RESERVED, 101 RESERVED, 102 RESERVED, 103 RESERVED, 104 RESERVED, 105 RESERVED, 106 RESERVED, 107 RESERVED, 108 RESERVED, 109 RESERVED

## MODULE-ESP-12E&F
designator U?
安信可模块
footprint MOD-ESP8266-12E&F (ESP8266-12F)
pins: 1 RST, 2 ADC, 3 EN, 4 GPIO16, 5 GPIO14, 6 GPIO12, 7 GPIO13, 8 VCC, 9 CS0, 10 MISO, 11 GPIO9, 12 GPIO10, 13 MOSI, 14 SCLK, 15 GND, 16 GPIO15, 17 GPIO2, 18 GPIO0, 19 GPIO4, 20 GPIO5, 21 RXD0, 22 TXD0

## MODULE-MB021F
designator U?, comment XY-MB021F
HID模块
pins: 1 GND, 2 VCC, 3 05-TX, 4 06-RX, 5 NC, 6 04-BT, 7 LINK, 8 GP02, 9 GP03, 10 NC, 11 NC, 12 GP01, 13 GP00, 14 GP07, 15 TXD, 16 RXD, 17 ~{BRTS}, 18 NC

## MODULE-MBD40A
designator U?, comment MBD40A
HID模块
pins: 1 GND, 2 VCC, 3 ROLE, 4 DIS_CON, 5 STA, 6 NC, 7 NC, 8 NC, 9 NC, 10 NC, 11 NC, 12 NC, 13 AT_EN, 14 SLEEP, 15 TX, 16 RX, 17 GND, 18 ANT

## MODULE-ME909S-821A
designator U?, comment ME909s-821AP V2
4G模块
footprint MOD-ME909S-821 (HUAWEI-ME909S-821AP V2)
part A pins: 5 PCM_SYNC, 6 PCM_DIN, 7 PCM_DOUT, 8 PCM_CLK, 9 SD_DATA1, 10 SD_DATA2, 11 WAKEUP_IN, 15 SLEEP_STATUS, 28 UART2_TX, 29 UART2_RX, 30 JTAG_TMS, 32 VCC_EXT1, 34 USIM_VCC, 36 JTAG_TRST_N, 42 JTAG_TCK, 43 GPIO1, 46 GPIO2, 51 GPIO3, 55 GPIO4/USIM_SWITCH, 66 SD_DATA3, 67 SD_CLK, 68 SD_DATA0, 69 SD_CMD, 70 USIM_DET, 71 WAKEUP_OUT, 72 JTAG_TDO, 73 UART0_DSR, 74 UART0_RTS, 75 UART0_DCD, 76 UART0_TX, 77 UART0_RING, 78 UART0_RX, 79 UART0_DTR, 80 UART0_CTS, 81 POWER_ON_OFF, 85 USB_DM, 86 USB_DP, 87 JTAG_TDI, 88 USIM_RESET, 89 USIM_DATA, 90 USIM_CLK, 92 SD_VCC, 93 JTAG_RTCK, 100 RESIN_N, 101 LED_MODE, 102 ADC_1, 104 ADC_2, 105 GPIO5, 107 MAIN_ANT, 109 GPIO6, 113 GPIO7, 115 AUX_ANT
part B pins: 1 Reserved, 2 Reserved, 3 Reserved, 4 Reserved, 14 Reserved, 16 Reserved, 17 Reserved, 18 Reserved, 19 Reserved, 20 Reserved, 21 Reserved, 22 Reserved, 23 Reserved, 24 Reserved, 25 NC, 26 NC, 27 Reserved, 31 Reserved, 33 Reserved, 35 Reserved, 37 Reserved, 38 NC, 39 NC, 40 NC, 41 NC, 44 Reserved, 45 Reserved, 47 NC, 60 Reserved, 61 Reserved, 62 Reserved, 63 Reserved, 64 Reserved, 65 Reserved, 82 NC, 83 NC, 84 NC, 91 Reserved, 94 Reserved, 95 Reserved, 96 Reserved, 97 Reserved, 98 Reserved, 99 Reserved, 103 Reserved, 111 NC, 117 NC, 118 NC, 119 NC, 120 NC
part C pins: 12 VBAT, 13 VBAT, 48 GND, 50 GND, 52 GND, 54 GND, 56 GND, 58 GND, 59 GND, 106 GND, 108 GND, 110 GND, 112 GND, 114 GND, 116 GND, 121 GND, 122 GND, 123 GND, 124 GND, 125 GND, 126 GND, 127 GND, 128 GND, 129 GND, 130 GND, 131 GND, 132 GND, 133 GND, 134 GND, 135 GND, 136 GND, 137 GND, 138 GND, 139 GND, 140 GND, 141 GND, 142 GND, 143 GND, 144 GND, 145 GND

## MODULE-WB3S
designator U?, comment WB3S
涂鸦模组
pins: 1 CEN, 2 ADC3, 3 NC, 4 P14, 5 PWM5, 6 PWM4, 7 PWM0, 8 VCC, 9 GND, 10 PWM1, 11 TXD2, 12 RXD2, 13 PWM3, 14 PWM2, 15 RXD1, 16 TXD1

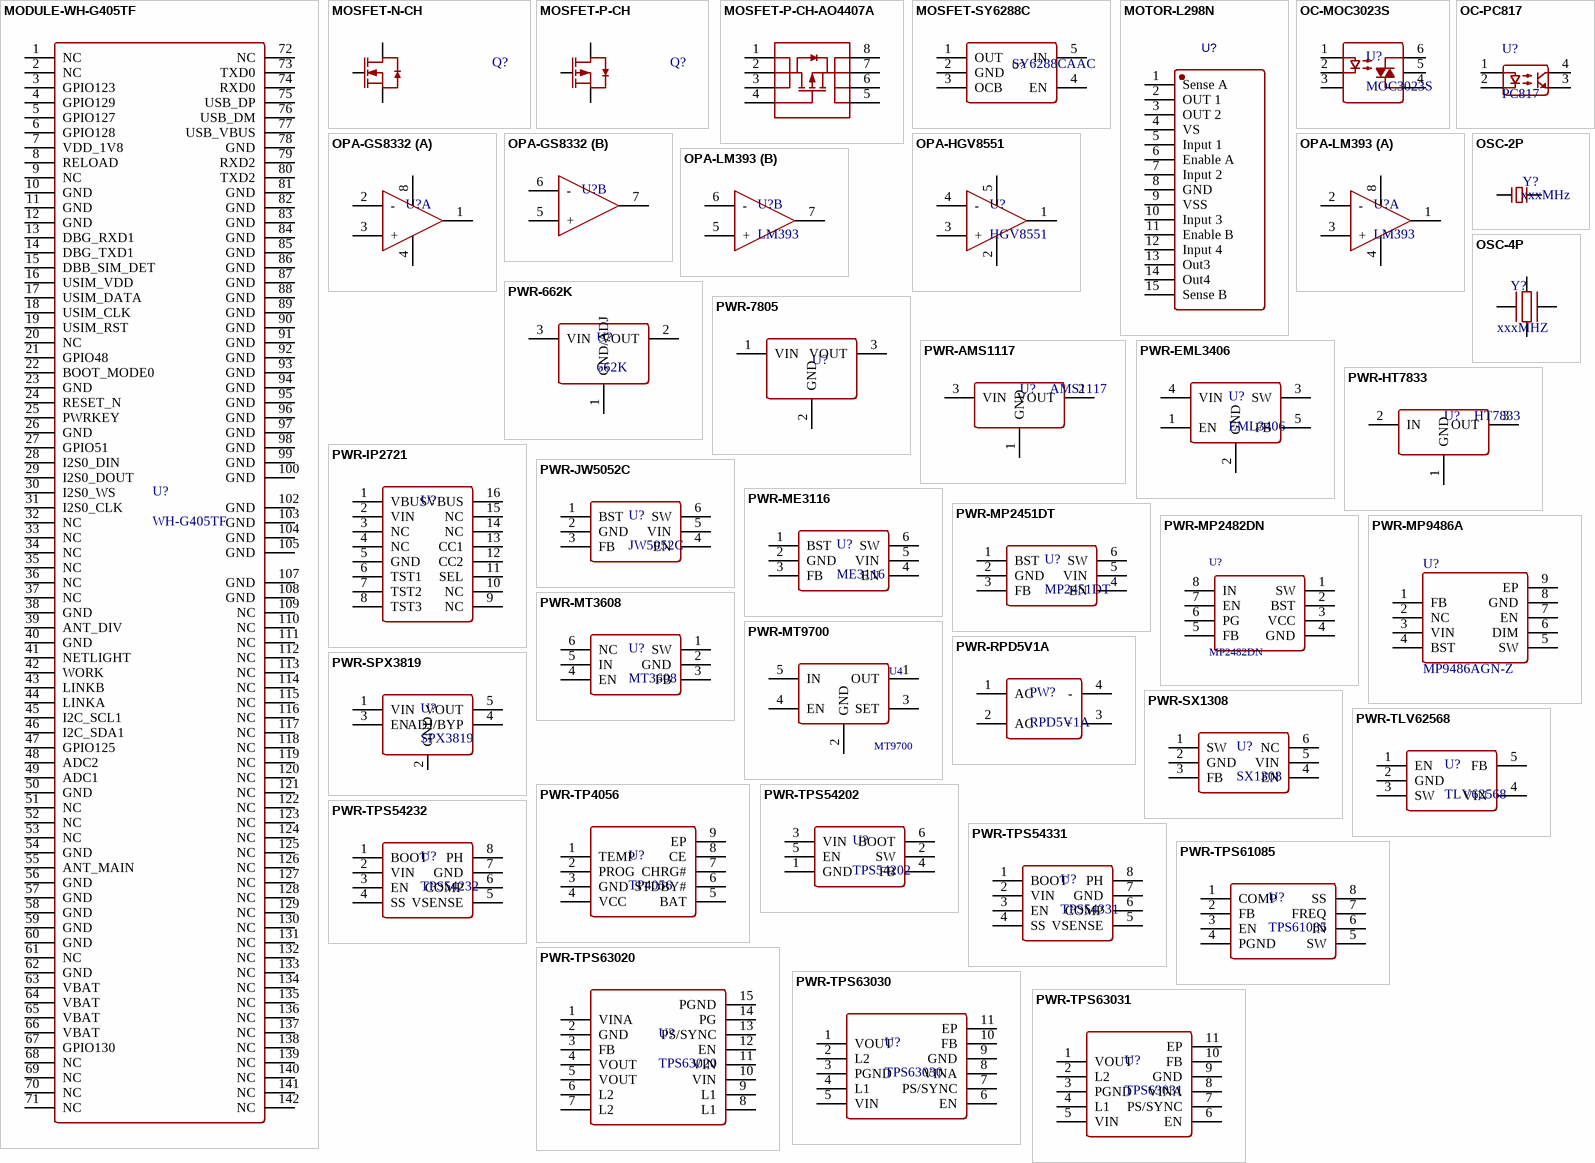
[diagram p5: symbols MODULE-WH-G405TF to PWR-TPS63031]

## MODULE-WH-G405TF
designator U?, comment WH-G405TF
4G模块
footprint MOD-WH-G405TF (WH-G405TF)
pins: 1 NC, 2 NC, 3 GPIO123, 4 GPIO129, 5 GPIO127, 6 GPIO128, 7 VDD_1V8, 8 RELOAD, 9 NC, 10 GND, 11 GND, 12 GND, 13 DBG_RXD1, 14 DBG_TXD1, 15 DBB_SIM_DET, 16 USIM_VDD, 17 USIM_DATA, 18 USIM_CLK, 19 USIM_RST, 20 NC, 21 GPIO48, 22 BOOT_MODE0, 23 GND, 24 RESET_N, 25 PWRKEY, 26 GND, 27 GPIO51, 28 I2S0_DIN, 29 I2S0_DOUT, 30 I2S0_WS, 31 I2S0_CLK, 32 NC, 33 NC, 34 NC, 35 NC, 36 NC, 37 NC, 38 GND, 39 ANT_DIV, 40 GND, 41 NETLIGHT, 42 WORK, 43 LINKB, 44 LINKA, 45 I2C_SCL1, 46 I2C_SDA1, 47 GPIO125, 48 ADC2, 49 ADC1, 50 GND, 51 NC, 52 NC, 53 NC, 54 GND, 55 ANT_MAIN, 56 GND, 57 GND, 58 GND, 59 GND, 60 GND, 61 NC, 62 GND, 63 VBAT, 64 VBAT, 65 VBAT, 66 VBAT, 67 GPIO130, 68 NC, 69 NC, 70 NC, 71 NC, 72 NC, 73 TXD0, 74 RXD0, 75 USB_DP, 76 USB_DM, 77 USB_VBUS, 78 GND, 79 RXD2, 80 TXD2, 81 GND, 82 GND, 83 GND, 84 GND, 85 GND, 86 GND, 87 GND, 88 GND, 89 GND, 90 GND, 91 GND, 92 GND, 93 GND, 94 GND, 95 GND, 96 GND, 97 GND, 98 GND, 99 GND, 100 GND, 102 GND, 103 GND, 104 GND, 105 GND, 107 GND, 108 GND, 109 NC, 110 NC, 111 NC, 112 NC, 113 NC, 114 NC, 115 NC, 116 NC, 117 NC, 118 NC, 119 NC, 120 NC, 121 NC, 122 NC, 123 NC, 124 NC, 125 NC, 126 NC, 127 NC, 128 NC, 129 NC, 130 NC, 131 NC, 132 NC, 133 NC, 134 NC, 135 NC, 136 NC, 137 NC, 138 NC, 139 NC, 140 NC, 141 NC, 142 NC

## MOSFET-N-CH
designator Q?
N-MOSFET
pins: 1 G, 2 S, 3 D

## MOSFET-P-CH
designator Q?
P-MOSFET
pins: 1 G, 2 S, 3 D

## MOSFET-P-CH-AO4407A
designator U?, comment AO4407A  (value not drawn)
P-MOSFET
footprint SOP/SOIC-8-150 (L5.0-W4.0-P1.27)
pins: 1 S, 2 S, 3 S, 4 G, 5 D, 6 D, 7 D, 8 D

## MOSFET-SY6288C
designator U?, comment SY6288CAAC
功率电子开关
footprint SOT-23-5
pins: 1 OUT, 2 GND, 3 OCB, 4 EN, 5 IN

## MOTOR-L298N
designator U?
电机驱动
footprint CHIP-L298N-DIP (CHIP)
pins: 1 Sense A, 2 OUT 1, 3 OUT 2, 4 VS, 5 Input 1, 6 Enable A, 7 Input 2, 8 GND, 9 VSS, 10 Input 3, 11 Enable B, 12 Input 4, 13 Out3, 14 Out4, 15 Sense B

## OC-MOC3023S
designator U?, comment MOC3023S
光电耦合器
footprint SMD-SCR-OC (SMD-6_L7.3-W6.5-P2.54-LS10.2-BL)
pins: 1, 2, 3, 4 Collector, 5 Collector, 6 Collector

## OC-PC817
designator U?, comment PC817
光电耦合器
footprint CHIP-PC817 (Optocoupler)
pins: 1 LED Anode, 2 LED Cathode, 3 Emitter, 4 Collector

## OPA-GS8332
designator U?, comment GS8332  (value not drawn)
运算放大器
footprint SOP/SOIC-8-150 (L5.0-W4.0-P1.27)
part A pins: 1 3V4, 2 -, 3 +, 4 VSS, 8 VCC
part B pins: 5 +, 6 -, 7 OUTB

## OPA-HGV8551
designator U?, comment HGV8551
运算放大器
footprint SOT-23-5
pins: 1 3V4, 2 3V5, 3 +, 4 -, 5 3V8

## OPA-LM393
designator U?, comment LM393
双路比较器
footprint SOP/SOIC-8-150 (L5.0-W4.0-P1.27)
part A pins: 1 3V4, 2 -, 3 +, 4 VSS, 8 VCC
part B pins: 5 +, 6 -, 7 OUTB

## OSC-2P
designator Y?, comment xxxMHz
无源晶振
pins: 1, 2

## OSC-4P
designator Y?, comment xxxMHZ
无源晶振
pins: 1, 2, 3, 4

## PWR-662K
designator U?, comment 662K
LDO
footprint SOT-23-3
pins: 1 GND/ADJ "Ground or Adjust", 2 VOUT "Voltage Output", 3 VIN "Voltage Input"

## PWR-7805
designator U?
LDO
pins: 1 VIN "Voltage Input", 2 GND "Ground or Adjust", 3 VOUT "Voltage Output"

## PWR-AMS1117
designator U?, comment AMS1117
LDO
footprint SOT-223
pins: 1 GND "Ground or Adjust", 2 VOUT "Voltage Output", 3 VIN "Voltage Input"

## PWR-EML3406
designator U?, comment EML3406
5.5V@0.6A同步降压芯片
footprint SOT-23-5
pins: 1 EN, 2 GND, 3 SW, 4 VIN, 5 FB

## PWR-HT7833
designator U?, comment HT7833
LDO
pins: 1 GND "Ground or Adjust", 2 IN "Voltage Output", 3 OUT "Voltage Input"

## PWR-IP2721
designator U?, comment IP2721  (value not drawn)
PD协议诱骗
footprint TSSOP-16 (L5.0-W4.4-P0.65)
pins: 1 VBUS, 2 VIN, 3 NC, 4 NC, 5 GND, 6 TST1, 7 TST2, 8 TST3, 9 NC, 10 NC, 11 SEL, 12 CC2, 13 CC1, 14 NC, 15 NC, 16 VBUS

## PWR-JW5052C
designator U?, comment JW5052C
4.5-18V@2A同步降压芯片
footprint SOT-23-6
pins: 1 BST, 2 GND, 3 FB, 4 EN, 5 VIN, 6 SW

## PWR-ME3116
designator U?, comment ME3116
4.75-40V@1A同步降压稳压器
footprint SOT-23-6
pins: 1 BST, 2 GND, 3 FB, 4 EN, 5 VIN, 6 SW

## PWR-MP2451DT
designator U?, comment MP2451DT
3.3-36V@0.6A同步降压芯片
pins: 1 BST, 2 GND, 3 FB, 4 EN, 5 VIN, 6 SW

## PWR-MP2482DN
designator U?, comment MP2482DN
4.5-30V@5A同步降压芯片
pins: 1 SW, 2 BST, 3 VCC, 4 GND, 5 FB, 6 PG, 7 EN, 8 IN

## PWR-MP9486A
designator U?, comment MP9486AGN-Z
4.5-100V@1A降压转换器
footprint SOP/SOIC-8-EP (L5.0-W4.0-P1.27)
pins: 1 FB, 2 NC, 3 VIN, 4 BST, 5 SW, 6 DIM, 7 EN, 8 GND, 9 EP

## PWR-MT3608
designator U?, comment MT3608
2-24V To 28V@4A同步升压芯片
footprint SOT-23-6
pins: 1 SW, 2 GND, 3 FB, 4 EN, 5 IN, 6 NC

## PWR-MT9700
designator U4, comment MT9700
DCDC芯片
pins: 1 OUT, 2 GND, 3 SET, 4 EN, 5 IN

## PWR-RPD5V1A
designator PW?, comment RPD5V1A
ACDC
footprint AC/DC-RPD5V1A (Power)
pins: 1 AC, 2 AC, 3 +, 4 -

## PWR-SPX3819
designator U?, comment SPX3819
LDO
footprint SOT-23-5
pins: 1 VIN, 2 GND, 3 EN, 4 ADJ/BYP, 5 VOUT

## PWR-SX1308
designator U?, comment SX1308
升压转换器
footprint SOT-23-6
pins: 1 SW, 2 GND, 3 FB, 4 EN, 5 VIN, 6 NC

## PWR-TLV62568
designator U?, comment TLV62568
2.5-5.5V@1A高效率同步降压转换器
footprint SOT-23-5
pins: 1 EN, 2 GND, 3 SW, 4 VIN, 5 FB

## PWR-TP4056
designator U?, comment TP4056
锂电池充电芯片
footprint SOP/SOIC-8-150 (L5.0-W4.0-P1.27)
pins: 1 TEMP, 2 PROG, 3 GND, 4 VCC, 5 BAT, 6 STDBY#, 7 CHRG#, 8 CE, 9 EP

## PWR-TPS54202
designator U?, comment TPS54202
4.5-28V@2A同步降压转换器
footprint SOT-23-6
pins: 1 GND, 2 SW, 3 VIN, 4 FB, 5 EN, 6 BOOT

## PWR-TPS54232
designator U?, comment TPS54232
2-28V@3.5A降压转换器
footprint SOP/SOIC-8-150 (L5.0-W4.0-P1.27)
pins: 1 BOOT, 2 VIN, 3 EN, 4 SS, 5 VSENSE, 6 COMP, 7 GND, 8 PH

## PWR-TPS54331
designator U?, comment TPS54331
3.5-28V@3A同步降压转换器
footprint SOP/SOIC-8-150 (L5.0-W4.0-P1.27)
pins: 1 BOOT, 2 VIN, 3 EN, 4 SS, 5 VSENSE, 6 COMP, 7 GND, 8 PH

## PWR-TPS61085
designator U?, comment TPS61085
2.3-6V To 18.5V@2A升压转换器
footprint VSSOP-8 (L3.0-W3.0-P0.65)
pins: 1 COMP, 2 FB, 3 EN, 4 PGND, 5 SW, 6 IN, 7 FREQ, 8 SS

## PWR-TPS63020
designator U?, comment TPS63020
1.8-5.5V@4A高效率、单电感器降压/升压转换器
footprint VSON-14 (L4.0-W3.0-P0.50)
pins: 1 VINA, 2 GND, 3 FB, 4 VOUT, 5 VOUT, 6 L2, 7 L2, 8 L1, 9 L1, 10 VIN, 11 VIN, 12 EN, 13 PS/SYNC, 14 PG, 15 PGND

## PWR-TPS63030
designator U?, comment TPS63030
1.8-5.5V@1A高效率、单电感器、降压升压转换器
footprint VSON-10 (L2.5-W2.5-P0.50)
pins: 1 VOUT, 2 L2, 3 PGND, 4 L1, 5 VIN, 6 EN, 7 PS/SYNC, 8 VINA, 9 GND, 10 FB, 11 EP

## PWR-TPS63031
designator U?, comment TPS63031
1.8-5.5V@1A高效率、单电感器、降压升压转换器
footprint VSON-10 (L2.5-W2.5-P0.50)
pins: 1 VOUT, 2 L2, 3 PGND, 4 L1, 5 VIN, 6 EN, 7 PS/SYNC, 8 VINA, 9 GND, 10 FB, 11 EP

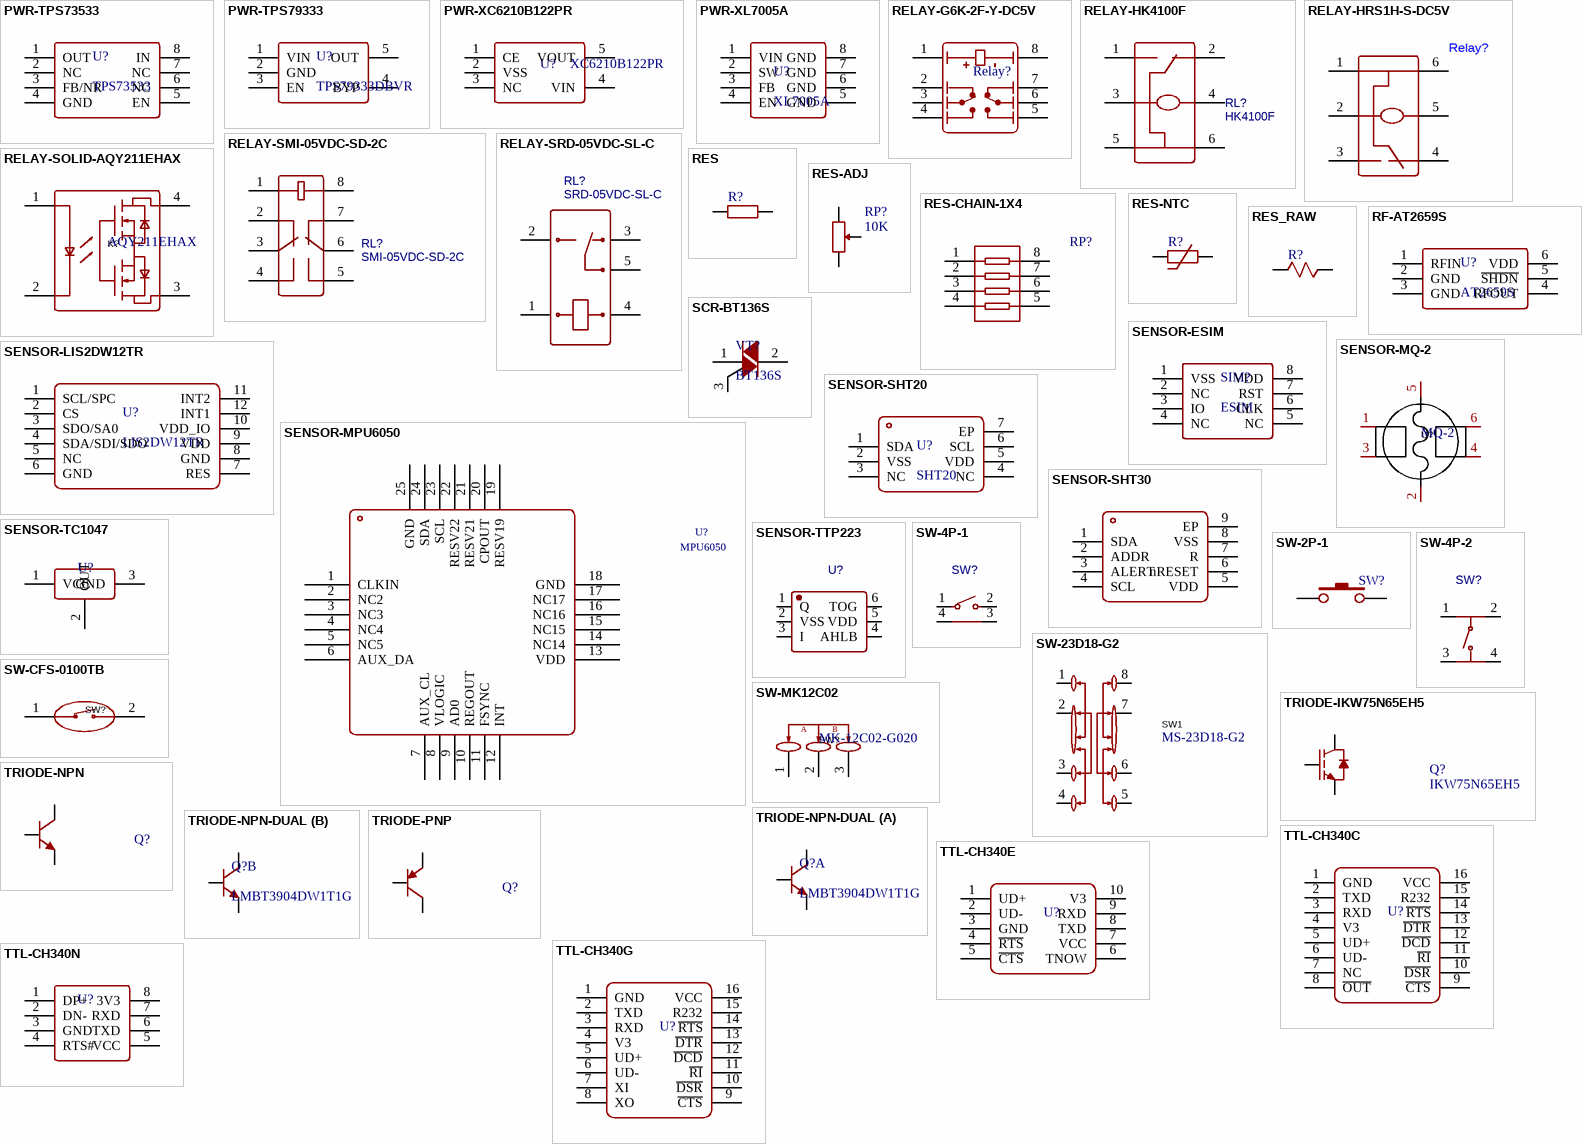
[diagram p6: symbols PWR-TPS73533 to TTL-CH340N]

## PWR-TPS73533
designator U?, comment TPS73533
2.7-6.5V@500mA带EN引脚的低压降线性稳压器
pins: 1 OUT, 2 NC, 3 FB/NR, 4 GND, 5 EN, 6 NC, 7 NC, 8 IN

## PWR-TPS79333
designator U?, comment TPS79333DBVR
6V@200mA低压降线性稳压器
pins: 1 VIN, 2 GND, 3 EN, 4 BYP, 5 OUT

## PWR-XC6210B122PR
designator U?, comment XC6210B122PR
LDO降压芯片
pins: 1 CE, 2 VSS, 3 NC, 4 VIN, 5 VOUT

## PWR-XL7005A
designator U?, comment XL7005A
5-80V 0.4A同步降压芯片
footprint SOP/SOIC-8-150 (L5.0-W4.0-P1.27)
pins: 1 VIN, 2 SW, 3 FB, 4 EN, 5 GND, 6 GND, 7 GND, 8 GND

## RELAY-G6K-2F-Y-DC5V
designator Relay?
欧娒龙继电器
footprint RELAY-G6K-2F-Y (欧娒龙超小型信号继电器)
pins: 1 +, 2 NC, 3 COM, 4 NO, 5 NO, 6 NO, 7 NC, 8 -

## RELAY-HK4100F
designator RL?, comment HK4100F
HK继电器
footprint RELAY-HK4100F (小型中功率继电器)
pins: 1, 2, 3, 4, 5, 6

## RELAY-HRS1H-S-DC5V
designator Relay?
HK继电器
footprint RELAY-HRS1H-S-DC5V (HK小型继电器)
pins: 1, 2, 3, 4, 5, 6

## RELAY-SMI-05VDC-SD-2C
designator RL?, comment SMI-05VDC-SD-2C
松乐继电器
footprint RELAY-SMI-SL-2C (松乐SMI-05VDC-SL-2C继电器)
pins: 1, 2, 3, 4, 5, 6, 7, 8

## RELAY-SOLID-AQY211EHAX
designator K?, comment AQY211EHAX
固态继电器
pins: 1, 2, 3, 4

## RELAY-SRD-05VDC-SL-C
designator RL?, comment SRD-05VDC-SL-C
松乐继电器
footprint RELAY-SRD-SL-C (松乐SRD-05VDC-SL-C继电器)
pins: 1, 2, 3, 4, 5

## RES
designator R?
贴片电阻
pins: 1, 2

## RES-ADJ
designator RP?, comment 10K
可调电位器
pins: 1, 2, 3

## RES-CHAIN-1X4
designator RP?
贴片排阻
pins: 1, 2, 3, 4, 5, 6, 7, 8

## RES-NTC
designator R?
热敏电阻
pins: 1, 2

## RES_RAW
designator R?
贴片电阻
pins: 1, 2

## RF-AT2659S
designator U?, comment AT2659S
GPS LNA
footprint SOT-23-6
pins: 1 RFIN, 2 GND, 3 GND, 4 RFOUT, 5 ~{SHDN}, 6 VDD

## SCR-BT136S
designator VT?, comment BT136S
双向可控硅
footprint TO-252-2
pins: 1, 2, 3

## SENSOR-ESIM
designator SIM?, comment ESIM
ESIM卡
footprint SMD-ESIM
pins: 1 VSS, 2 NC, 3 IO, 4 NC, 5 NC, 6 CLK, 7 RST, 8 VDD

## SENSOR-LIS2DW12TR
designator U?, comment LIS2DW12TR
三轴加速度计
footprint LGA-12-L2.0-W2.0-P0.50 (LIS2DW12TR)
pins: 1 SCL/SPC, 2 CS, 3 SDO/SA0, 4 SDA/SDI/SDO, 5 NC, 6 GND, 7 RES, 8 GND, 9 VDD, 10 VDD_IO, 11 INT2, 12 INT1

## SENSOR-MPU6050
designator U?, comment MPU6050
六轴陀螺仪
footprint Model Name (Footprint not found)
footprint QFN-24-L4.0-W4.0-P0.50 (L4.0-W4.0-P0.50-MPU6050)
pins: 1 CLKIN, 2 NC2, 3 NC3, 4 NC4, 5 NC5, 6 AUX_DA, 7 AUX_CL, 8 VLOGIC, 9 AD0, 10 REGOUT, 11 FSYNC, 12 INT, 13 VDD, 14 NC14, 15 NC15, 16 NC16, 17 NC17, 18 GND, 19 RESV19, 20 CPOUT, 21 RESV21, 22 RESV22, 23 SCL, 24 SDA, 25 GND

## SENSOR-MQ-2
designator U?, comment MQ-2
可燃气体传感器
footprint SENSOR-MQ-2 (MQ-2)
pins: 1 A0, 2 H, 3 A1, 4 B1, 5 H, 6 B0

## SENSOR-SHT20
designator U?, comment SHT20
温湿度传感器
footprint SENSOR-SHT20 (DFN-6_L3.0-W3.0-P0.95-TR-EP)
pins: 1 SDA, 2 VSS, 3 NC, 4 NC, 5 VDD, 6 SCL, 7 EP

## SENSOR-SHT30
designator U?, comment SHT30-DIS-B10KS  (value not drawn)
温湿度传感器
footprint SENSOR-SHT30 (DFN-8)
pins: 1 SDA, 2 ADDR, 3 ALERT, 4 SCL, 5 VDD, 6 nRESET, 7 R, 8 VSS, 9 EP

## SENSOR-TC1047
designator U?, comment TC1047  (value not drawn)
温度传感器
footprint SOT-23-3
pins: 1 VCC, 2 OUT, 3 GND

## SENSOR-TTP223
designator U?, comment TTP223  (value not drawn)
触摸感应芯片
footprint SOT-23-6
pins: 1 Q, 2 VSS, 3 I, 4 AHLB, 5 VDD, 6 TOG

## SW-2P-1
designator SW?
轻触按键
pins: 1, 2

## SW-4P-1
designator SW?
轻触按键
pins: 1, 2, 3, 4

## SW-4P-2
designator SW?
轻触按键
pins: 1 A, 2 B, 3 C, 4 D

## SW-23D18-G2
designator SW1, comment MS-23D18-G2
双刀三掷开关
footprint SW-SMD-MS-23D18 (SWITCH)
pins: 1, 2, 3, 4, 5, 6, 7, 8

## SW-CFS-0100TB
designator SW?, comment CFS-0100TB  (value not drawn)
拔码开关
pins: 1, 2

## SW-MK12C02
designator SW?, comment MK-12C02-G020
滑动开关
pins: 1, 2, 3
text: A; B

## TRIODE-IKW75N65EH5
designator Q?, comment IKW75N65EH5
IGBT
pins: 1 B, 2 C, 3 E

## TRIODE-NPN
designator Q?
三极管
pins: 1 B, 2 E, 3 C

## TRIODE-NPN-DUAL
designator Q?, comment LMBT3904DW1T1G
双三极管
footprint SOT-363/SC-88
part A pins: 1 E, 2 B, 6 C
part B pins: 3 C, 4 E, 5 B

## TRIODE-PNP
designator Q?
三极管
pins: 1 B, 2 E, 3 C

## TTL-CH340C
designator U?, comment CH340C  (value not drawn)
USB-TTL转换芯片
footprint SOP/SOIC-16 (10.3*6.2*1.8mm)
pins: 1 GND, 2 TXD, 3 RXD, 4 V3, 5 UD+, 6 UD-, 7 NC, 8 ~{OUT}, 9 ~{CTS}, 10 ~{DSR}, 11 ~{RI}, 12 ~{DCD}, 13 ~{DTR}, 14 ~{RTS}, 15 R232, 16 VCC

## TTL-CH340E
designator U?, comment CH340E  (value not drawn)
USB-TTL转换芯片
pins: 1 UD+, 2 UD-, 3 GND, 4 ~{RTS}, 5 ~{CTS}, 6 TNOW, 7 VCC, 8 TXD, 9 RXD, 10 V3

## TTL-CH340G
designator U?, comment CH340G  (value not drawn)
USB-TTL转换芯片
footprint SOP/SOIC-16 (10.3*6.2*1.8mm)
pins: 1 GND, 2 TXD, 3 RXD, 4 V3, 5 UD+, 6 UD-, 7 XI, 8 XO, 9 ~{CTS}, 10 ~{DSR}, 11 ~{RI}, 12 ~{DCD}, 13 ~{DTR}, 14 ~{RTS}, 15 R232, 16 VCC

## TTL-CH340N
designator U?, comment CH340N  (value not drawn)
USB-TTL转换芯片
footprint SOP/SOIC-8-150 (L5.0-W4.0-P1.27)
pins: 1 DP+, 2 DN-, 3 GND, 4 RTS#, 5 VCC, 6 TXD, 7 RXD, 8 3V3

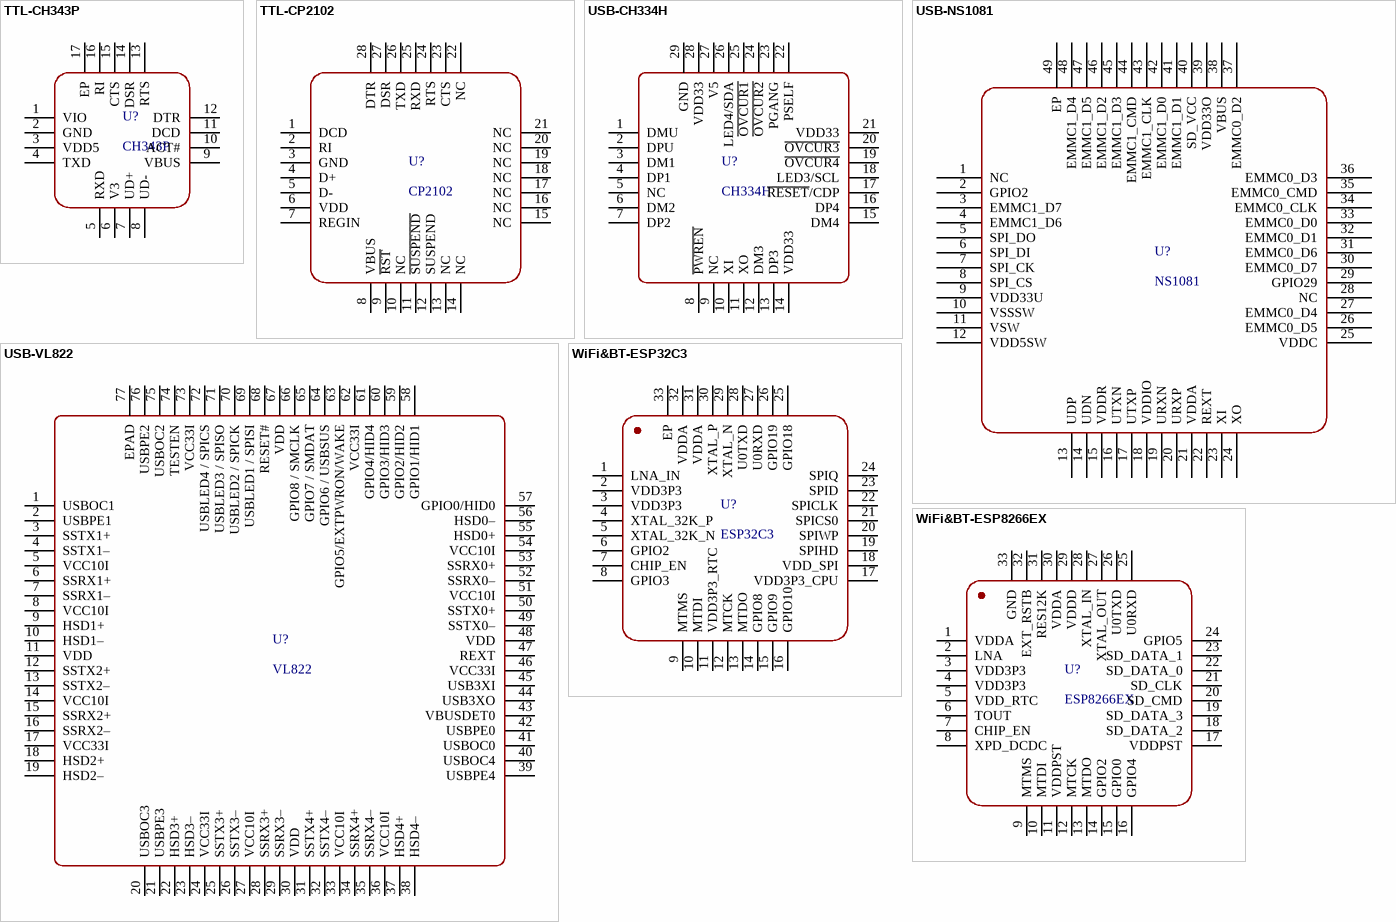
[diagram p7: symbols TTL-CH343P to WiFi&BT-ESP8266EX]

## TTL-CH343P
designator U?, comment CH343P
USB-TTL转换芯片
footprint QFN-16-L3.0-W3.0-P0.50 (L3.0-W3.0-P0.50-BL-EP1.7-CH343P)
pins: 1 VIO, 2 GND, 3 VDD5, 4 TXD, 5 RXD, 6 V3, 7 UD+, 8 UD-, 9 VBUS, 10 ACT#, 11 DCD, 12 DTR, 13 RTS, 14 DSR, 15 CTS, 16 RI, 17 EP

## TTL-CP2102
designator U?, comment CP2102
USB-TTL转换芯片
footprint QFN-28-L5.0-W5.0-P0.50 (QFN-28-L5.0-W5.0-P0.5——CP2102)
pins: 1 DCD, 2 RI, 3 GND, 4 D+, 5 D-, 6 VDD, 7 REGIN, 8 VBUS, 9 ~{RST}, 10 NC, 11 ~{SUSPEND}, 12 SUSPEND, 13 NC, 14 NC, 15 NC, 16 NC, 17 NC, 18 NC, 19 NC, 20 NC, 21 NC, 22 NC, 23 CTS, 24 RTS, 25 RXD, 26 TXD, 27 DSR, 28 DTR

## USB-CH334H
designator U?, comment CH334H
WCH USB2.0-HUB芯片
footprint QFN-28-L5.0-W5.0-P0.50 (QFN-28-L5.0-W5.0-P0.5——CP2102)
pins: 1 DMU, 2 DPU, 3 DM1, 4 DP1, 5 NC, 6 DM2, 7 DP2, 8 ~{PWREN}, 9 NC, 10 XI, 11 XO, 12 DM3, 13 DP3, 14 VDD33, 15 DM4, 16 DP4, 17 ~{RESET}/CDP, 18 LED3/SCL, 19 ~{OVCUR4}, 20 ~{OVCUR3}, 21 VDD33, 22 PSELF, 23 PGANG, 24 ~{OVCUR2}, 25 ~{OVCUR1}, 26 LED4/SDA, 27 V5, 28 VDD33, 29 GND

## USB-NS1081
designator U?, comment NS1081
eMMC控制器
footprint QFN-48-L6.0-W6.0-P0.40 (L6.0-W6.0-P0.4——NS1081)
pins: 1 NC, 2 GPIO2, 3 EMMC1_D7, 4 EMMC1_D6, 5 SPI_DO, 6 SPI_DI, 7 SPI_CK, 8 SPI_CS, 9 VDD33U, 10 VSSSW, 11 VSW, 12 VDD5SW, 13 UDP, 14 UDN, 15 VDDR, 16 UTXN, 17 UTXP, 18 VDDIO, 19 URXN, 20 URXP, 21 VDDA, 22 REXT, 23 XI, 24 XO, 25 VDDC, 26 EMMC0_D5, 27 EMMC0_D4, 28 NC, 29 GPIO29, 30 EMMC0_D7, 31 EMMC0_D6, 32 EMMC0_D1, 33 EMMC0_D0, 34 EMMC0_CLK, 35 EMMC0_CMD, 36 EMMC0_D3, 37 EMMC0_D2, 38 VBUS, 39 VDD33O, 40 SD_VCC, 41 EMMC1_D1, 42 EMMC1_D0, 43 EMMC1_CLK, 44 EMMC1_CMD, 45 EMMC1_D3, 46 EMMC1_D2, 47 EMMC1_D5, 48 EMMC1_D4, 49 EP

## USB-VL822
designator U?, comment VL822
USB3.1 HUB芯片
footprint QFN-76-L9.0-W9.0-P0.40 (L9.0-W9.0-P0.40)
pins: 1 USBOC1, 2 USBPE1, 3 SSTX1+, 4 SSTX1–, 5 VCC10I, 6 SSRX1+, 7 SSRX1–, 8 VCC10I, 9 HSD1+, 10 HSD1–, 11 VDD, 12 SSTX2+, 13 SSTX2–, 14 VCC10I, 15 SSRX2+, 16 SSRX2–, 17 VCC33I, 18 HSD2+, 19 HSD2–, 20 USBOC3, 21 USBPE3, 22 HSD3+, 23 HSD3–, 24 VCC33I, 25 SSTX3+, 26 SSTX3–, 27 VCC10I, 28 SSRX3+, 29 SSRX3–, 30 VDD, 31 SSTX4+, 32 SSTX4–, 33 VCC10I, 34 SSRX4+, 35 SSRX4–, 36 VCC10I, 37 HSD4+, 38 HSD4–, 39 USBPE4, 40 USBOC4, 41 USBOC0, 42 USBPE0, 43 VBUSDET0, 44 USB3XO, 45 USB3XI, 46 VCC33I, 47 REXT, 48 VDD, 49 SSTX0–, 50 SSTX0+, 51 VCC10I, 52 SSRX0–, 53 SSRX0+, 54 VCC10I, 55 HSD0+, 56 HSD0–, 57 GPIO0/HID0, 58 GPIO1/HID1, 59 GPIO2/HID2, 60 GPIO3/HID3, 61 GPIO4/HID4, 62 VCC33I, 63 GPIO5/EXTPWRON/WAKE, 64 GPIO6 / USBSUS, 65 GPIO7 / SMDAT, 66 GPIO8 / SMCLK, 67 VDD, 68 RESET#, 69 USBLED1 / SPISI, 70 USBLED2 / SPICK, 71 USBLED3 / SPISO, 72 USBLED4 / SPICS, 73 VCC33I, 74 TESTEN, 75 USBOC2, 76 USBPE2, 77 EPAD

## WiFi&BT-ESP32C3
designator U?, comment ESP32C3
乐鑫WiFI芯片
footprint QFN-32-L5.0-W5.0-P0.50 (L5.0-W5.0-P0.5——ESP8266EX)
pins: 1 LNA_IN, 2 VDD3P3 (power), 3 VDD3P3 (power), 4 XTAL_32K_P, 5 XTAL_32K_N, 6 GPIO2, 7 CHIP_EN, 8 GPIO3, 9 MTMS, 10 MTDI, 11 VDD3P3_RTC (power), 12 MTCK, 13 MTDO, 14 GPIO8, 15 GPIO9, 16 GPIO10, 17 VDD3P3_CPU (power), 18 VDD_SPI (power), 19 SPIHD, 20 SPIWP, 21 SPICS0, 22 SPICLK, 23 SPID, 24 SPIQ, 25 GPIO18, 26 GPIO19, 27 U0RXD, 28 U0TXD, 29 XTAL_N, 30 XTAL_P, 31 VDDA (power), 32 VDDA (power), 33 EP

## WiFi&BT-ESP8266EX
designator U?, comment ESP8266EX
乐鑫WiFI芯片
footprint QFN-32-L5.0-W5.0-P0.50 (L5.0-W5.0-P0.5——ESP8266EX)
pins: 1 VDDA, 2 LNA, 3 VDD3P3, 4 VDD3P3, 5 VDD_RTC, 6 TOUT, 7 CHIP_EN, 8 XPD_DCDC, 9 MTMS, 10 MTDI, 11 VDDPST, 12 MTCK, 13 MTDO, 14 GPIO2, 15 GPIO0, 16 GPIO4, 17 VDDPST, 18 SD_DATA_2, 19 SD_DATA_3, 20 SD_CMD, 21 SD_CLK, 22 SD_DATA_0, 23 SD_DATA_1, 24 GPIO5, 25 U0RXD, 26 U0TXD, 27 XTAL_OUT, 28 XTAL_IN, 29 VDDD, 30 VDDA, 31 RES12K, 32 EXT_RSTB, 33 GND